# Altium integrated library Altium Database Library V2.IntLib: 825 symbols (part 31 of 40)

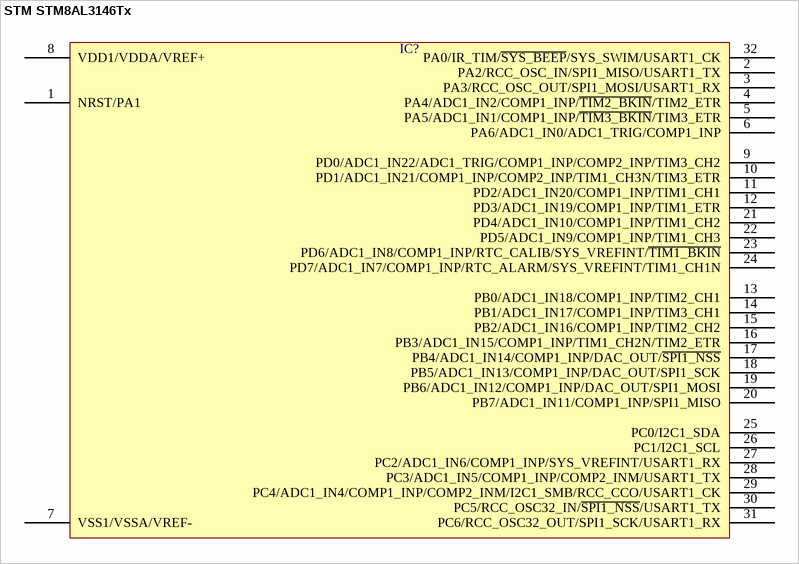
[diagram p610: symbol STM STM8AL3146Tx]

## STM STM8AL3146Tx
designator IC?  (value not drawn)
pins: 1 NRST/PA1, 2 PA2/RCC_OSC_IN/SPI1_MISO/USART1_TX, 3 PA3/RCC_OSC_OUT/SPI1_MOSI/USART1_RX, 4 PA4/ADC1_IN2/COMP1_INP/~{TIM2_BKIN}/TIM2_ETR, 5 PA5/ADC1_IN1/COMP1_INP/~{TIM3_BKIN}/TIM3_ETR, 6 PA6/ADC1_IN0/ADC1_TRIG/COMP1_INP, 7 VSS1/VSSA/VREF-, 8 VDD1/VDDA/VREF+, 9 PD0/ADC1_IN22/ADC1_TRIG/COMP1_INP/COMP2_INP/TIM3_CH2, 10 PD1/ADC1_IN21/COMP1_INP/COMP2_INP/TIM1_CH3N/TIM3_ETR, 11 PD2/ADC1_IN20/COMP1_INP/TIM1_CH1, 12 PD3/ADC1_IN19/COMP1_INP/TIM1_ETR, 13 PB0/ADC1_IN18/COMP1_INP/TIM2_CH1, 14 PB1/ADC1_IN17/COMP1_INP/TIM3_CH1, 15 PB2/ADC1_IN16/COMP1_INP/TIM2_CH2, 16 PB3/ADC1_IN15/COMP1_INP/TIM1_CH2N/TIM2_ETR, 17 PB4/ADC1_IN14/COMP1_INP/DAC_OUT/~{SPI1_NSS}, 18 PB5/ADC1_IN13/COMP1_INP/DAC_OUT/SPI1_SCK, 19 PB6/ADC1_IN12/COMP1_INP/DAC_OUT/SPI1_MOSI, 20 PB7/ADC1_IN11/COMP1_INP/SPI1_MISO, 21 PD4/ADC1_IN10/COMP1_INP/TIM1_CH2, 22 PD5/ADC1_IN9/COMP1_INP/TIM1_CH3, 23 PD6/ADC1_IN8/COMP1_INP/RTC_CALIB/SYS_VREFINT/~{TIM1_BKIN}, 24 PD7/ADC1_IN7/COMP1_INP/RTC_ALARM/SYS_VREFINT/TIM1_CH1N, 25 PC0/I2C1_SDA, 26 PC1/I2C1_SCL, 27 PC2/ADC1_IN6/COMP1_INP/SYS_VREFINT/USART1_RX, 28 PC3/ADC1_IN5/COMP1_INP/COMP2_INM/USART1_TX, 29 PC4/ADC1_IN4/COMP1_INP/COMP2_INM/I2C1_SMB/RCC_CCO/USART1_CK, 30 PC5/RCC_OSC32_IN/~{SPI1_NSS}/USART1_TX, 31 PC6/RCC_OSC32_OUT/SPI1_SCK/USART1_RX, 32 PA0/IR_TIM/~{SYS_BEEP}/SYS_SWIM/USART1_CK


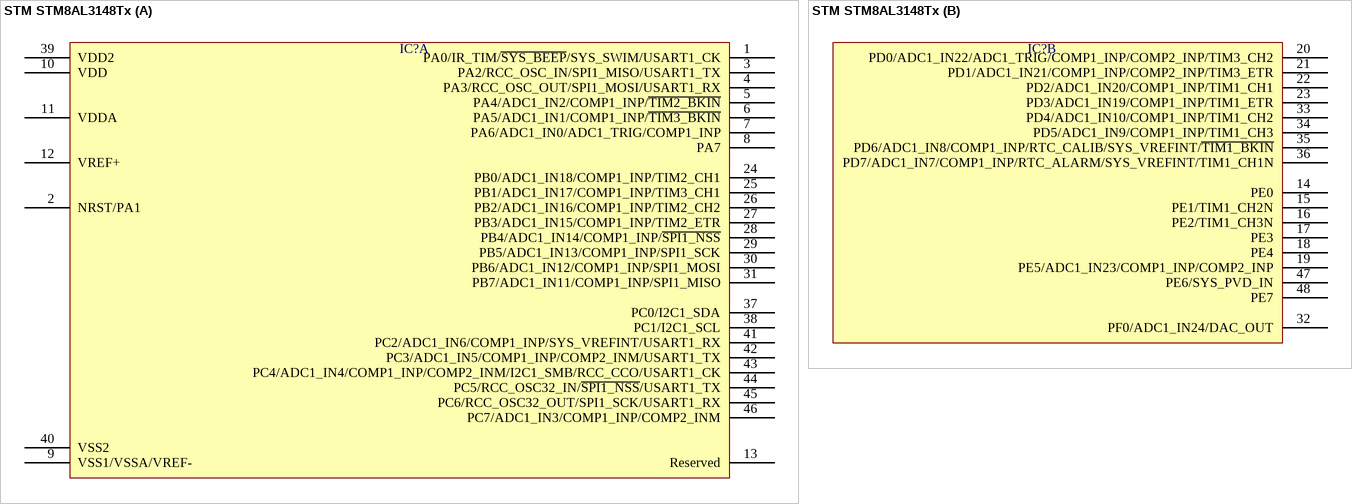
[diagram p611: symbol STM STM8AL3148Tx]

## STM STM8AL3148Tx
designator IC?  (value not drawn)
part A pins: 1 PA0/IR_TIM/~{SYS_BEEP}/SYS_SWIM/USART1_CK, 2 NRST/PA1, 3 PA2/RCC_OSC_IN/SPI1_MISO/USART1_TX, 4 PA3/RCC_OSC_OUT/SPI1_MOSI/USART1_RX, 5 PA4/ADC1_IN2/COMP1_INP/~{TIM2_BKIN}, 6 PA5/ADC1_IN1/COMP1_INP/~{TIM3_BKIN}, 7 PA6/ADC1_IN0/ADC1_TRIG/COMP1_INP, 8 PA7, 9 VSS1/VSSA/VREF-, 10 VDD, 11 VDDA, 12 VREF+, 13 Reserved, 24 PB0/ADC1_IN18/COMP1_INP/TIM2_CH1, 25 PB1/ADC1_IN17/COMP1_INP/TIM3_CH1, 26 PB2/ADC1_IN16/COMP1_INP/TIM2_CH2, 27 PB3/ADC1_IN15/COMP1_INP/TIM2_ETR, 28 PB4/ADC1_IN14/COMP1_INP/~{SPI1_NSS}, 29 PB5/ADC1_IN13/COMP1_INP/SPI1_SCK, 30 PB6/ADC1_IN12/COMP1_INP/SPI1_MOSI, 31 PB7/ADC1_IN11/COMP1_INP/SPI1_MISO, 37 PC0/I2C1_SDA, 38 PC1/I2C1_SCL, 39 VDD2, 40 VSS2, 41 PC2/ADC1_IN6/COMP1_INP/SYS_VREFINT/USART1_RX, 42 PC3/ADC1_IN5/COMP1_INP/COMP2_INM/USART1_TX, 43 PC4/ADC1_IN4/COMP1_INP/COMP2_INM/I2C1_SMB/RCC_CCO/USART1_CK, 44 PC5/RCC_OSC32_IN/~{SPI1_NSS}/USART1_TX, 45 PC6/RCC_OSC32_OUT/SPI1_SCK/USART1_RX, 46 PC7/ADC1_IN3/COMP1_INP/COMP2_INM
part B pins: 14 PE0, 15 PE1/TIM1_CH2N, 16 PE2/TIM1_CH3N, 17 PE3, 18 PE4, 19 PE5/ADC1_IN23/COMP1_INP/COMP2_INP, 20 PD0/ADC1_IN22/ADC1_TRIG/COMP1_INP/COMP2_INP/TIM3_CH2, 21 PD1/ADC1_IN21/COMP1_INP/COMP2_INP/TIM3_ETR, 22 PD2/ADC1_IN20/COMP1_INP/TIM1_CH1, 23 PD3/ADC1_IN19/COMP1_INP/TIM1_ETR, 32 PF0/ADC1_IN24/DAC_OUT, 33 PD4/ADC1_IN10/COMP1_INP/TIM1_CH2, 34 PD5/ADC1_IN9/COMP1_INP/TIM1_CH3, 35 PD6/ADC1_IN8/COMP1_INP/RTC_CALIB/SYS_VREFINT/~{TIM1_BKIN}, 36 PD7/ADC1_IN7/COMP1_INP/RTC_ALARM/SYS_VREFINT/TIM1_CH1N, 47 PE6/SYS_PVD_IN, 48 PE7


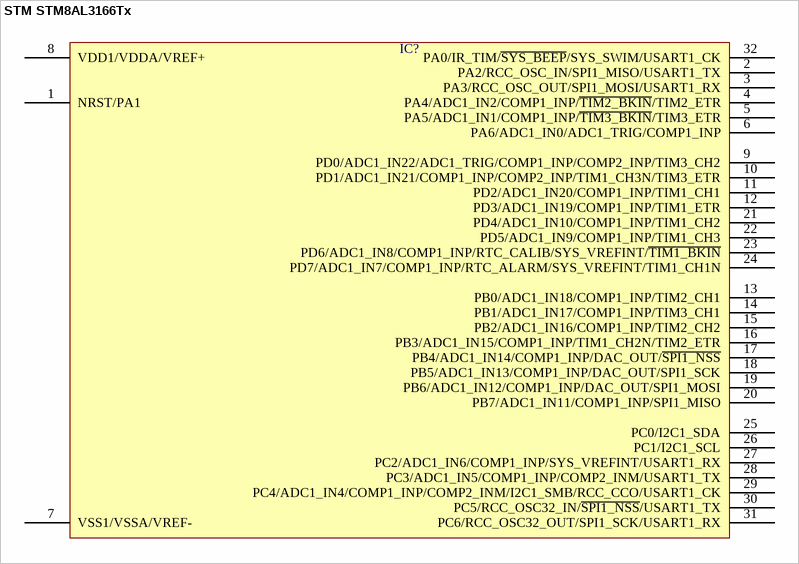
[diagram p612: symbol STM STM8AL3166Tx]

## STM STM8AL3166Tx
designator IC?  (value not drawn)
pins: 1 NRST/PA1, 2 PA2/RCC_OSC_IN/SPI1_MISO/USART1_TX, 3 PA3/RCC_OSC_OUT/SPI1_MOSI/USART1_RX, 4 PA4/ADC1_IN2/COMP1_INP/~{TIM2_BKIN}/TIM2_ETR, 5 PA5/ADC1_IN1/COMP1_INP/~{TIM3_BKIN}/TIM3_ETR, 6 PA6/ADC1_IN0/ADC1_TRIG/COMP1_INP, 7 VSS1/VSSA/VREF-, 8 VDD1/VDDA/VREF+, 9 PD0/ADC1_IN22/ADC1_TRIG/COMP1_INP/COMP2_INP/TIM3_CH2, 10 PD1/ADC1_IN21/COMP1_INP/COMP2_INP/TIM1_CH3N/TIM3_ETR, 11 PD2/ADC1_IN20/COMP1_INP/TIM1_CH1, 12 PD3/ADC1_IN19/COMP1_INP/TIM1_ETR, 13 PB0/ADC1_IN18/COMP1_INP/TIM2_CH1, 14 PB1/ADC1_IN17/COMP1_INP/TIM3_CH1, 15 PB2/ADC1_IN16/COMP1_INP/TIM2_CH2, 16 PB3/ADC1_IN15/COMP1_INP/TIM1_CH2N/TIM2_ETR, 17 PB4/ADC1_IN14/COMP1_INP/DAC_OUT/~{SPI1_NSS}, 18 PB5/ADC1_IN13/COMP1_INP/DAC_OUT/SPI1_SCK, 19 PB6/ADC1_IN12/COMP1_INP/DAC_OUT/SPI1_MOSI, 20 PB7/ADC1_IN11/COMP1_INP/SPI1_MISO, 21 PD4/ADC1_IN10/COMP1_INP/TIM1_CH2, 22 PD5/ADC1_IN9/COMP1_INP/TIM1_CH3, 23 PD6/ADC1_IN8/COMP1_INP/RTC_CALIB/SYS_VREFINT/~{TIM1_BKIN}, 24 PD7/ADC1_IN7/COMP1_INP/RTC_ALARM/SYS_VREFINT/TIM1_CH1N, 25 PC0/I2C1_SDA, 26 PC1/I2C1_SCL, 27 PC2/ADC1_IN6/COMP1_INP/SYS_VREFINT/USART1_RX, 28 PC3/ADC1_IN5/COMP1_INP/COMP2_INM/USART1_TX, 29 PC4/ADC1_IN4/COMP1_INP/COMP2_INM/I2C1_SMB/RCC_CCO/USART1_CK, 30 PC5/RCC_OSC32_IN/~{SPI1_NSS}/USART1_TX, 31 PC6/RCC_OSC32_OUT/SPI1_SCK/USART1_RX, 32 PA0/IR_TIM/~{SYS_BEEP}/SYS_SWIM/USART1_CK


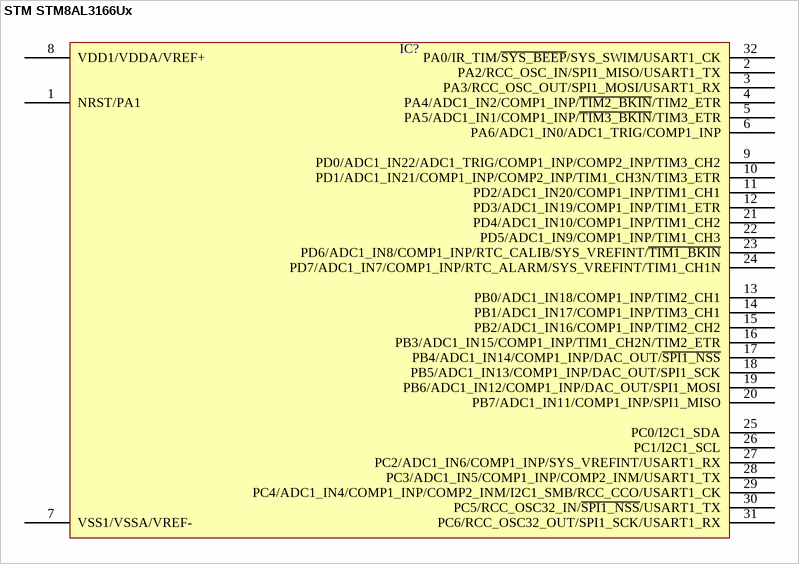
[diagram p613: symbol STM STM8AL3166Ux]

## STM STM8AL3166Ux
designator IC?  (value not drawn)
pins: 1 NRST/PA1, 2 PA2/RCC_OSC_IN/SPI1_MISO/USART1_TX, 3 PA3/RCC_OSC_OUT/SPI1_MOSI/USART1_RX, 4 PA4/ADC1_IN2/COMP1_INP/~{TIM2_BKIN}/TIM2_ETR, 5 PA5/ADC1_IN1/COMP1_INP/~{TIM3_BKIN}/TIM3_ETR, 6 PA6/ADC1_IN0/ADC1_TRIG/COMP1_INP, 7 VSS1/VSSA/VREF-, 8 VDD1/VDDA/VREF+, 9 PD0/ADC1_IN22/ADC1_TRIG/COMP1_INP/COMP2_INP/TIM3_CH2, 10 PD1/ADC1_IN21/COMP1_INP/COMP2_INP/TIM1_CH3N/TIM3_ETR, 11 PD2/ADC1_IN20/COMP1_INP/TIM1_CH1, 12 PD3/ADC1_IN19/COMP1_INP/TIM1_ETR, 13 PB0/ADC1_IN18/COMP1_INP/TIM2_CH1, 14 PB1/ADC1_IN17/COMP1_INP/TIM3_CH1, 15 PB2/ADC1_IN16/COMP1_INP/TIM2_CH2, 16 PB3/ADC1_IN15/COMP1_INP/TIM1_CH2N/TIM2_ETR, 17 PB4/ADC1_IN14/COMP1_INP/DAC_OUT/~{SPI1_NSS}, 18 PB5/ADC1_IN13/COMP1_INP/DAC_OUT/SPI1_SCK, 19 PB6/ADC1_IN12/COMP1_INP/DAC_OUT/SPI1_MOSI, 20 PB7/ADC1_IN11/COMP1_INP/SPI1_MISO, 21 PD4/ADC1_IN10/COMP1_INP/TIM1_CH2, 22 PD5/ADC1_IN9/COMP1_INP/TIM1_CH3, 23 PD6/ADC1_IN8/COMP1_INP/RTC_CALIB/SYS_VREFINT/~{TIM1_BKIN}, 24 PD7/ADC1_IN7/COMP1_INP/RTC_ALARM/SYS_VREFINT/TIM1_CH1N, 25 PC0/I2C1_SDA, 26 PC1/I2C1_SCL, 27 PC2/ADC1_IN6/COMP1_INP/SYS_VREFINT/USART1_RX, 28 PC3/ADC1_IN5/COMP1_INP/COMP2_INM/USART1_TX, 29 PC4/ADC1_IN4/COMP1_INP/COMP2_INM/I2C1_SMB/RCC_CCO/USART1_CK, 30 PC5/RCC_OSC32_IN/~{SPI1_NSS}/USART1_TX, 31 PC6/RCC_OSC32_OUT/SPI1_SCK/USART1_RX, 32 PA0/IR_TIM/~{SYS_BEEP}/SYS_SWIM/USART1_CK


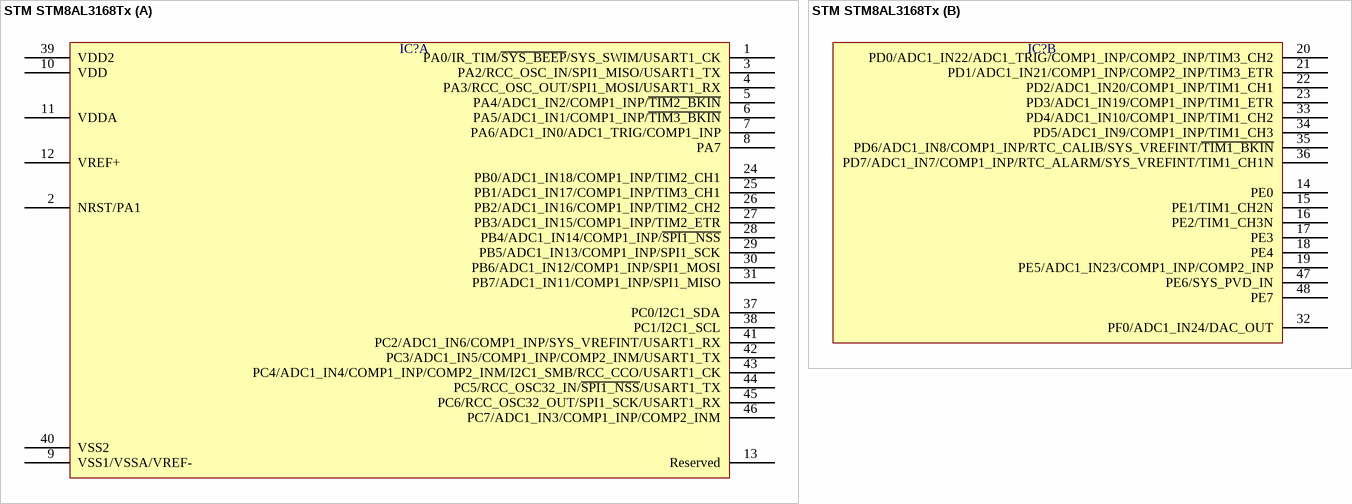
[diagram p614: symbol STM STM8AL3168Tx]

## STM STM8AL3168Tx
designator IC?  (value not drawn)
part A pins: 1 PA0/IR_TIM/~{SYS_BEEP}/SYS_SWIM/USART1_CK, 2 NRST/PA1, 3 PA2/RCC_OSC_IN/SPI1_MISO/USART1_TX, 4 PA3/RCC_OSC_OUT/SPI1_MOSI/USART1_RX, 5 PA4/ADC1_IN2/COMP1_INP/~{TIM2_BKIN}, 6 PA5/ADC1_IN1/COMP1_INP/~{TIM3_BKIN}, 7 PA6/ADC1_IN0/ADC1_TRIG/COMP1_INP, 8 PA7, 9 VSS1/VSSA/VREF-, 10 VDD, 11 VDDA, 12 VREF+, 13 Reserved, 24 PB0/ADC1_IN18/COMP1_INP/TIM2_CH1, 25 PB1/ADC1_IN17/COMP1_INP/TIM3_CH1, 26 PB2/ADC1_IN16/COMP1_INP/TIM2_CH2, 27 PB3/ADC1_IN15/COMP1_INP/TIM2_ETR, 28 PB4/ADC1_IN14/COMP1_INP/~{SPI1_NSS}, 29 PB5/ADC1_IN13/COMP1_INP/SPI1_SCK, 30 PB6/ADC1_IN12/COMP1_INP/SPI1_MOSI, 31 PB7/ADC1_IN11/COMP1_INP/SPI1_MISO, 37 PC0/I2C1_SDA, 38 PC1/I2C1_SCL, 39 VDD2, 40 VSS2, 41 PC2/ADC1_IN6/COMP1_INP/SYS_VREFINT/USART1_RX, 42 PC3/ADC1_IN5/COMP1_INP/COMP2_INM/USART1_TX, 43 PC4/ADC1_IN4/COMP1_INP/COMP2_INM/I2C1_SMB/RCC_CCO/USART1_CK, 44 PC5/RCC_OSC32_IN/~{SPI1_NSS}/USART1_TX, 45 PC6/RCC_OSC32_OUT/SPI1_SCK/USART1_RX, 46 PC7/ADC1_IN3/COMP1_INP/COMP2_INM
part B pins: 14 PE0, 15 PE1/TIM1_CH2N, 16 PE2/TIM1_CH3N, 17 PE3, 18 PE4, 19 PE5/ADC1_IN23/COMP1_INP/COMP2_INP, 20 PD0/ADC1_IN22/ADC1_TRIG/COMP1_INP/COMP2_INP/TIM3_CH2, 21 PD1/ADC1_IN21/COMP1_INP/COMP2_INP/TIM3_ETR, 22 PD2/ADC1_IN20/COMP1_INP/TIM1_CH1, 23 PD3/ADC1_IN19/COMP1_INP/TIM1_ETR, 32 PF0/ADC1_IN24/DAC_OUT, 33 PD4/ADC1_IN10/COMP1_INP/TIM1_CH2, 34 PD5/ADC1_IN9/COMP1_INP/TIM1_CH3, 35 PD6/ADC1_IN8/COMP1_INP/RTC_CALIB/SYS_VREFINT/~{TIM1_BKIN}, 36 PD7/ADC1_IN7/COMP1_INP/RTC_ALARM/SYS_VREFINT/TIM1_CH1N, 47 PE6/SYS_PVD_IN, 48 PE7


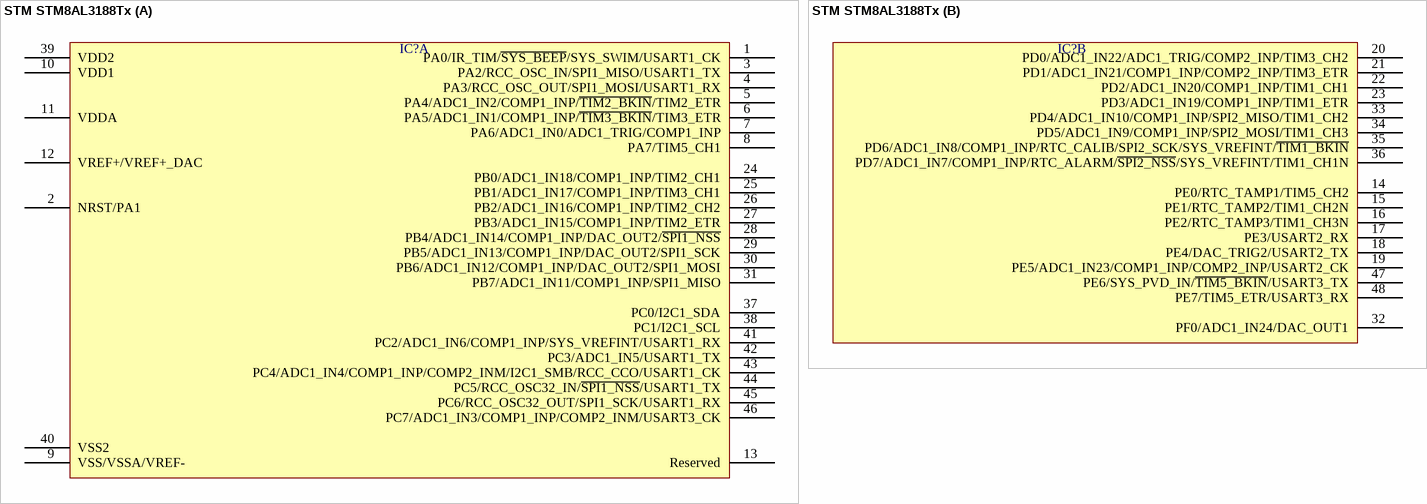
[diagram p615: symbol STM STM8AL3188Tx]

## STM STM8AL3188Tx
designator IC?  (value not drawn)
part A pins: 1 PA0/IR_TIM/~{SYS_BEEP}/SYS_SWIM/USART1_CK, 2 NRST/PA1, 3 PA2/RCC_OSC_IN/SPI1_MISO/USART1_TX, 4 PA3/RCC_OSC_OUT/SPI1_MOSI/USART1_RX, 5 PA4/ADC1_IN2/COMP1_INP/~{TIM2_BKIN}/TIM2_ETR, 6 PA5/ADC1_IN1/COMP1_INP/~{TIM3_BKIN}/TIM3_ETR, 7 PA6/ADC1_IN0/ADC1_TRIG/COMP1_INP, 8 PA7/TIM5_CH1, 9 VSS/VSSA/VREF-, 10 VDD1, 11 VDDA, 12 VREF+/VREF+_DAC, 13 Reserved, 24 PB0/ADC1_IN18/COMP1_INP/TIM2_CH1, 25 PB1/ADC1_IN17/COMP1_INP/TIM3_CH1, 26 PB2/ADC1_IN16/COMP1_INP/TIM2_CH2, 27 PB3/ADC1_IN15/COMP1_INP/TIM2_ETR, 28 PB4/ADC1_IN14/COMP1_INP/DAC_OUT2/~{SPI1_NSS}, 29 PB5/ADC1_IN13/COMP1_INP/DAC_OUT2/SPI1_SCK, 30 PB6/ADC1_IN12/COMP1_INP/DAC_OUT2/SPI1_MOSI, 31 PB7/ADC1_IN11/COMP1_INP/SPI1_MISO, 37 PC0/I2C1_SDA, 38 PC1/I2C1_SCL, 39 VDD2, 40 VSS2, 41 PC2/ADC1_IN6/COMP1_INP/SYS_VREFINT/USART1_RX, 42 PC3/ADC1_IN5/USART1_TX, 43 PC4/ADC1_IN4/COMP1_INP/COMP2_INM/I2C1_SMB/RCC_CCO/USART1_CK, 44 PC5/RCC_OSC32_IN/~{SPI1_NSS}/USART1_TX, 45 PC6/RCC_OSC32_OUT/SPI1_SCK/USART1_RX, 46 PC7/ADC1_IN3/COMP1_INP/COMP2_INM/USART3_CK
part B pins: 14 PE0/RTC_TAMP1/TIM5_CH2, 15 PE1/RTC_TAMP2/TIM1_CH2N, 16 PE2/RTC_TAMP3/TIM1_CH3N, 17 PE3/USART2_RX, 18 PE4/DAC_TRIG2/USART2_TX, 19 PE5/ADC1_IN23/COMP1_INP/COMP2_INP/USART2_CK, 20 PD0/ADC1_IN22/ADC1_TRIG/COMP2_INP/TIM3_CH2, 21 PD1/ADC1_IN21/COMP1_INP/COMP2_INP/TIM3_ETR, 22 PD2/ADC1_IN20/COMP1_INP/TIM1_CH1, 23 PD3/ADC1_IN19/COMP1_INP/TIM1_ETR, 32 PF0/ADC1_IN24/DAC_OUT1, 33 PD4/ADC1_IN10/COMP1_INP/SPI2_MISO/TIM1_CH2, 34 PD5/ADC1_IN9/COMP1_INP/SPI2_MOSI/TIM1_CH3, 35 PD6/ADC1_IN8/COMP1_INP/RTC_CALIB/SPI2_SCK/SYS_VREFINT/~{TIM1_BKIN}, 36 PD7/ADC1_IN7/COMP1_INP/RTC_ALARM/~{SPI2_NSS}/SYS_VREFINT/TIM1_CH1N, 47 PE6/SYS_PVD_IN/~{TIM5_BKIN}/USART3_TX, 48 PE7/TIM5_ETR/USART3_RX


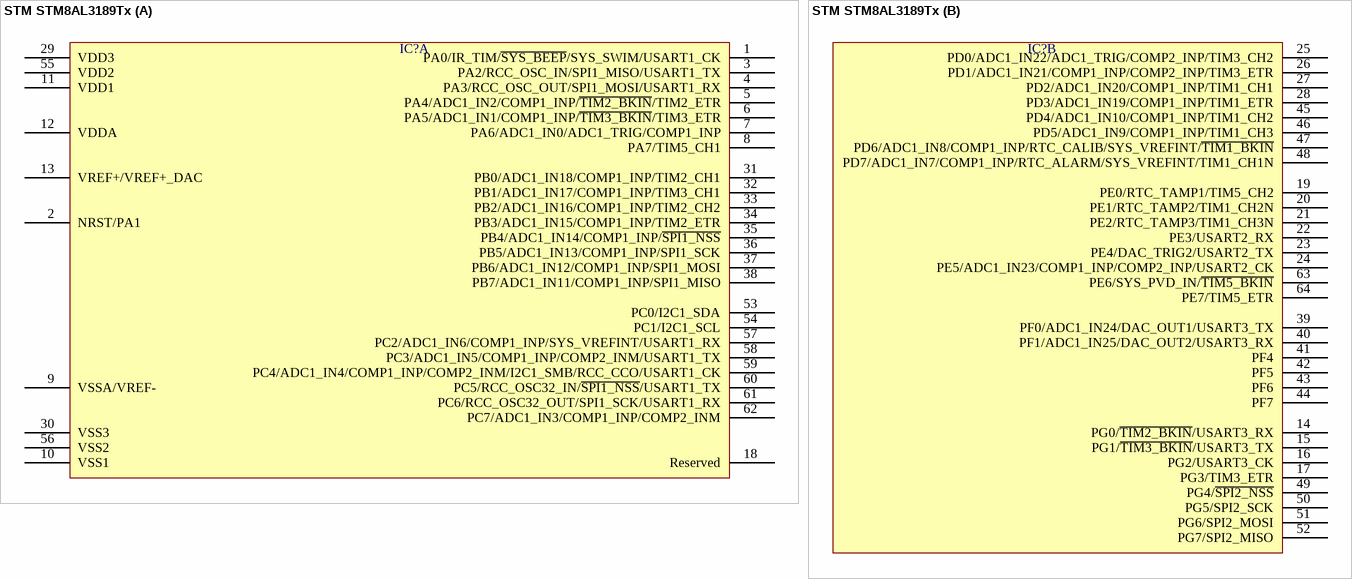
[diagram p616: symbol STM STM8AL3189Tx]

## STM STM8AL3189Tx
designator IC?  (value not drawn)
part A pins: 1 PA0/IR_TIM/~{SYS_BEEP}/SYS_SWIM/USART1_CK, 2 NRST/PA1, 3 PA2/RCC_OSC_IN/SPI1_MISO/USART1_TX, 4 PA3/RCC_OSC_OUT/SPI1_MOSI/USART1_RX, 5 PA4/ADC1_IN2/COMP1_INP/~{TIM2_BKIN}/TIM2_ETR, 6 PA5/ADC1_IN1/COMP1_INP/~{TIM3_BKIN}/TIM3_ETR, 7 PA6/ADC1_IN0/ADC1_TRIG/COMP1_INP, 8 PA7/TIM5_CH1, 9 VSSA/VREF-, 10 VSS1, 11 VDD1, 12 VDDA, 13 VREF+/VREF+_DAC, 18 Reserved, 29 VDD3, 30 VSS3, 31 PB0/ADC1_IN18/COMP1_INP/TIM2_CH1, 32 PB1/ADC1_IN17/COMP1_INP/TIM3_CH1, 33 PB2/ADC1_IN16/COMP1_INP/TIM2_CH2, 34 PB3/ADC1_IN15/COMP1_INP/TIM2_ETR, 35 PB4/ADC1_IN14/COMP1_INP/~{SPI1_NSS}, 36 PB5/ADC1_IN13/COMP1_INP/SPI1_SCK, 37 PB6/ADC1_IN12/COMP1_INP/SPI1_MOSI, 38 PB7/ADC1_IN11/COMP1_INP/SPI1_MISO, 53 PC0/I2C1_SDA, 54 PC1/I2C1_SCL, 55 VDD2, 56 VSS2, 57 PC2/ADC1_IN6/COMP1_INP/SYS_VREFINT/USART1_RX, 58 PC3/ADC1_IN5/COMP1_INP/COMP2_INM/USART1_TX, 59 PC4/ADC1_IN4/COMP1_INP/COMP2_INM/I2C1_SMB/RCC_CCO/USART1_CK, 60 PC5/RCC_OSC32_IN/~{SPI1_NSS}/USART1_TX, 61 PC6/RCC_OSC32_OUT/SPI1_SCK/USART1_RX, 62 PC7/ADC1_IN3/COMP1_INP/COMP2_INM
part B pins: 14 PG0/~{TIM2_BKIN}/USART3_RX, 15 PG1/~{TIM3_BKIN}/USART3_TX, 16 PG2/USART3_CK, 17 PG3/TIM3_ETR, 19 PE0/RTC_TAMP1/TIM5_CH2, 20 PE1/RTC_TAMP2/TIM1_CH2N, 21 PE2/RTC_TAMP3/TIM1_CH3N, 22 PE3/USART2_RX, 23 PE4/DAC_TRIG2/USART2_TX, 24 PE5/ADC1_IN23/COMP1_INP/COMP2_INP/USART2_CK, 25 PD0/ADC1_IN22/ADC1_TRIG/COMP2_INP/TIM3_CH2, 26 PD1/ADC1_IN21/COMP1_INP/COMP2_INP/TIM3_ETR, 27 PD2/ADC1_IN20/COMP1_INP/TIM1_CH1, 28 PD3/ADC1_IN19/COMP1_INP/TIM1_ETR, 39 PF0/ADC1_IN24/DAC_OUT1/USART3_TX, 40 PF1/ADC1_IN25/DAC_OUT2/USART3_RX, 41 PF4, 42 PF5, 43 PF6, 44 PF7, 45 PD4/ADC1_IN10/COMP1_INP/TIM1_CH2, 46 PD5/ADC1_IN9/COMP1_INP/TIM1_CH3, 47 PD6/ADC1_IN8/COMP1_INP/RTC_CALIB/SYS_VREFINT/~{TIM1_BKIN}, 48 PD7/ADC1_IN7/COMP1_INP/RTC_ALARM/SYS_VREFINT/TIM1_CH1N, 49 PG4/~{SPI2_NSS}, 50 PG5/SPI2_SCK, 51 PG6/SPI2_MOSI, 52 PG7/SPI2_MISO, 63 PE6/SYS_PVD_IN/~{TIM5_BKIN}, 64 PE7/TIM5_ETR


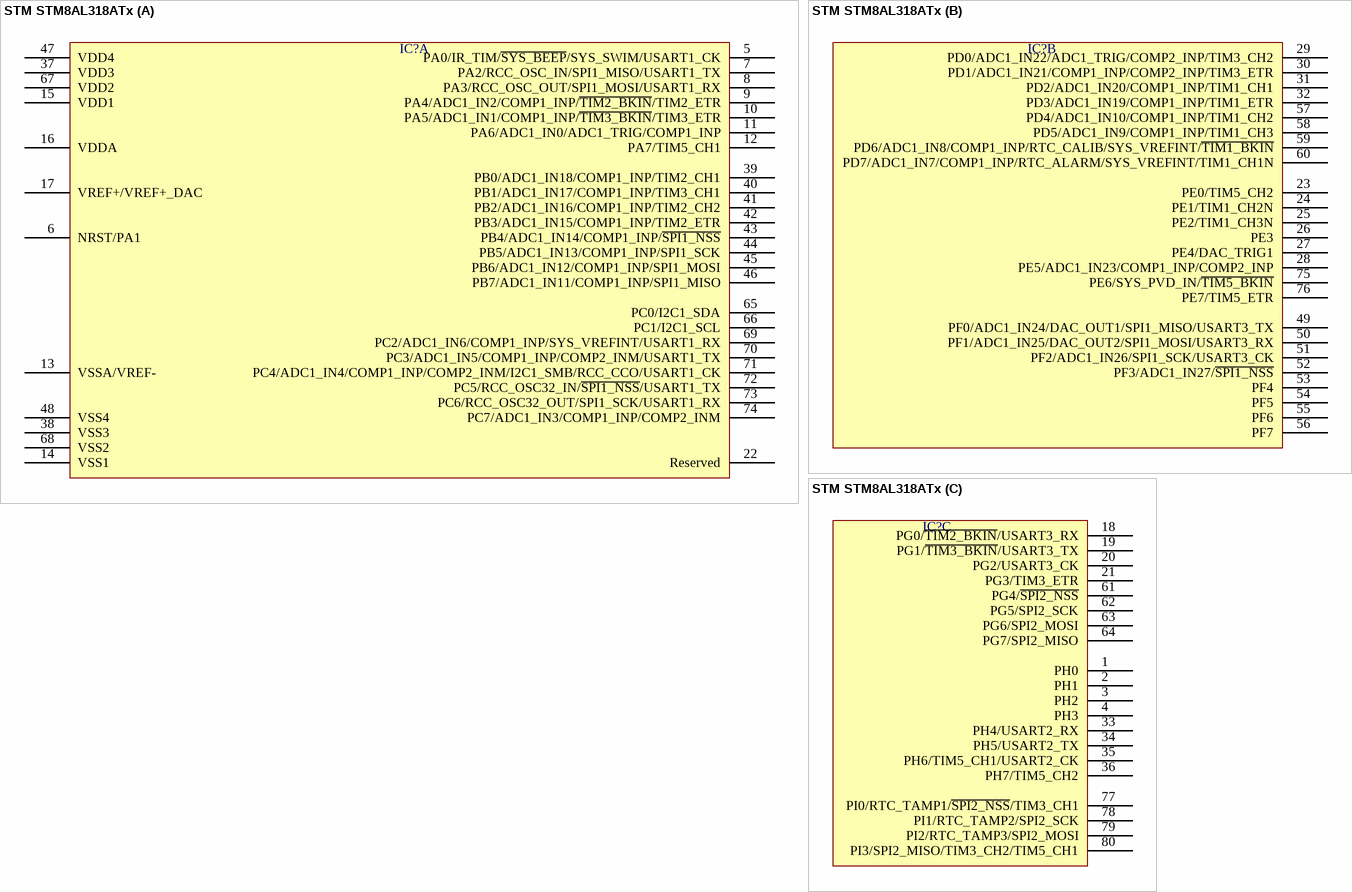
[diagram p617: symbol STM STM8AL318ATx]

## STM STM8AL318ATx
designator IC?  (value not drawn)
part A pins: 5 PA0/IR_TIM/~{SYS_BEEP}/SYS_SWIM/USART1_CK, 6 NRST/PA1, 7 PA2/RCC_OSC_IN/SPI1_MISO/USART1_TX, 8 PA3/RCC_OSC_OUT/SPI1_MOSI/USART1_RX, 9 PA4/ADC1_IN2/COMP1_INP/~{TIM2_BKIN}/TIM2_ETR, 10 PA5/ADC1_IN1/COMP1_INP/~{TIM3_BKIN}/TIM3_ETR, 11 PA6/ADC1_IN0/ADC1_TRIG/COMP1_INP, 12 PA7/TIM5_CH1, 13 VSSA/VREF-, 14 VSS1, 15 VDD1, 16 VDDA, 17 VREF+/VREF+_DAC, 22 Reserved, 37 VDD3, 38 VSS3, 39 PB0/ADC1_IN18/COMP1_INP/TIM2_CH1, 40 PB1/ADC1_IN17/COMP1_INP/TIM3_CH1, 41 PB2/ADC1_IN16/COMP1_INP/TIM2_CH2, 42 PB3/ADC1_IN15/COMP1_INP/TIM2_ETR, 43 PB4/ADC1_IN14/COMP1_INP/~{SPI1_NSS}, 44 PB5/ADC1_IN13/COMP1_INP/SPI1_SCK, 45 PB6/ADC1_IN12/COMP1_INP/SPI1_MOSI, 46 PB7/ADC1_IN11/COMP1_INP/SPI1_MISO, 47 VDD4, 48 VSS4, 65 PC0/I2C1_SDA, 66 PC1/I2C1_SCL, 67 VDD2, 68 VSS2, 69 PC2/ADC1_IN6/COMP1_INP/SYS_VREFINT/USART1_RX, 70 PC3/ADC1_IN5/COMP1_INP/COMP2_INM/USART1_TX, 71 PC4/ADC1_IN4/COMP1_INP/COMP2_INM/I2C1_SMB/RCC_CCO/USART1_CK, 72 PC5/RCC_OSC32_IN/~{SPI1_NSS}/USART1_TX, 73 PC6/RCC_OSC32_OUT/SPI1_SCK/USART1_RX, 74 PC7/ADC1_IN3/COMP1_INP/COMP2_INM
part B pins: 23 PE0/TIM5_CH2, 24 PE1/TIM1_CH2N, 25 PE2/TIM1_CH3N, 26 PE3, 27 PE4/DAC_TRIG1, 28 PE5/ADC1_IN23/COMP1_INP/COMP2_INP, 29 PD0/ADC1_IN22/ADC1_TRIG/COMP2_INP/TIM3_CH2, 30 PD1/ADC1_IN21/COMP1_INP/COMP2_INP/TIM3_ETR, 31 PD2/ADC1_IN20/COMP1_INP/TIM1_CH1, 32 PD3/ADC1_IN19/COMP1_INP/TIM1_ETR, 49 PF0/ADC1_IN24/DAC_OUT1/SPI1_MISO/USART3_TX, 50 PF1/ADC1_IN25/DAC_OUT2/SPI1_MOSI/USART3_RX, 51 PF2/ADC1_IN26/SPI1_SCK/USART3_CK, 52 PF3/ADC1_IN27/~{SPI1_NSS}, 53 PF4, 54 PF5, 55 PF6, 56 PF7, 57 PD4/ADC1_IN10/COMP1_INP/TIM1_CH2, 58 PD5/ADC1_IN9/COMP1_INP/TIM1_CH3, 59 PD6/ADC1_IN8/COMP1_INP/RTC_CALIB/SYS_VREFINT/~{TIM1_BKIN}, 60 PD7/ADC1_IN7/COMP1_INP/RTC_ALARM/SYS_VREFINT/TIM1_CH1N, 75 PE6/SYS_PVD_IN/~{TIM5_BKIN}, 76 PE7/TIM5_ETR
part C pins: 1 PH0, 2 PH1, 3 PH2, 4 PH3, 18 PG0/~{TIM2_BKIN}/USART3_RX, 19 PG1/~{TIM3_BKIN}/USART3_TX, 20 PG2/USART3_CK, 21 PG3/TIM3_ETR, 33 PH4/USART2_RX, 34 PH5/USART2_TX, 35 PH6/TIM5_CH1/USART2_CK, 36 PH7/TIM5_CH2, 61 PG4/~{SPI2_NSS}, 62 PG5/SPI2_SCK, 63 PG6/SPI2_MOSI, 64 PG7/SPI2_MISO, 77 PI0/RTC_TAMP1/~{SPI2_NSS}/TIM3_CH1, 78 PI1/RTC_TAMP2/SPI2_SCK, 79 PI2/RTC_TAMP3/SPI2_MOSI, 80 PI3/SPI2_MISO/TIM3_CH2/TIM5_CH1


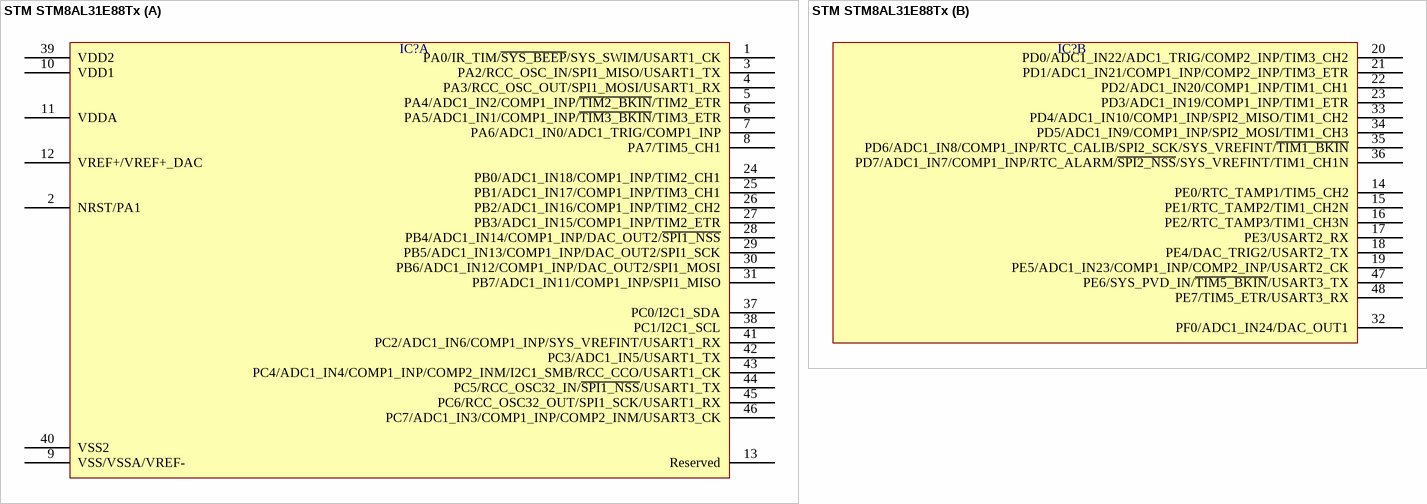
[diagram p618: symbol STM STM8AL31E88Tx]

## STM STM8AL31E88Tx
designator IC?  (value not drawn)
part A pins: 1 PA0/IR_TIM/~{SYS_BEEP}/SYS_SWIM/USART1_CK, 2 NRST/PA1, 3 PA2/RCC_OSC_IN/SPI1_MISO/USART1_TX, 4 PA3/RCC_OSC_OUT/SPI1_MOSI/USART1_RX, 5 PA4/ADC1_IN2/COMP1_INP/~{TIM2_BKIN}/TIM2_ETR, 6 PA5/ADC1_IN1/COMP1_INP/~{TIM3_BKIN}/TIM3_ETR, 7 PA6/ADC1_IN0/ADC1_TRIG/COMP1_INP, 8 PA7/TIM5_CH1, 9 VSS/VSSA/VREF-, 10 VDD1, 11 VDDA, 12 VREF+/VREF+_DAC, 13 Reserved, 24 PB0/ADC1_IN18/COMP1_INP/TIM2_CH1, 25 PB1/ADC1_IN17/COMP1_INP/TIM3_CH1, 26 PB2/ADC1_IN16/COMP1_INP/TIM2_CH2, 27 PB3/ADC1_IN15/COMP1_INP/TIM2_ETR, 28 PB4/ADC1_IN14/COMP1_INP/DAC_OUT2/~{SPI1_NSS}, 29 PB5/ADC1_IN13/COMP1_INP/DAC_OUT2/SPI1_SCK, 30 PB6/ADC1_IN12/COMP1_INP/DAC_OUT2/SPI1_MOSI, 31 PB7/ADC1_IN11/COMP1_INP/SPI1_MISO, 37 PC0/I2C1_SDA, 38 PC1/I2C1_SCL, 39 VDD2, 40 VSS2, 41 PC2/ADC1_IN6/COMP1_INP/SYS_VREFINT/USART1_RX, 42 PC3/ADC1_IN5/USART1_TX, 43 PC4/ADC1_IN4/COMP1_INP/COMP2_INM/I2C1_SMB/RCC_CCO/USART1_CK, 44 PC5/RCC_OSC32_IN/~{SPI1_NSS}/USART1_TX, 45 PC6/RCC_OSC32_OUT/SPI1_SCK/USART1_RX, 46 PC7/ADC1_IN3/COMP1_INP/COMP2_INM/USART3_CK
part B pins: 14 PE0/RTC_TAMP1/TIM5_CH2, 15 PE1/RTC_TAMP2/TIM1_CH2N, 16 PE2/RTC_TAMP3/TIM1_CH3N, 17 PE3/USART2_RX, 18 PE4/DAC_TRIG2/USART2_TX, 19 PE5/ADC1_IN23/COMP1_INP/COMP2_INP/USART2_CK, 20 PD0/ADC1_IN22/ADC1_TRIG/COMP2_INP/TIM3_CH2, 21 PD1/ADC1_IN21/COMP1_INP/COMP2_INP/TIM3_ETR, 22 PD2/ADC1_IN20/COMP1_INP/TIM1_CH1, 23 PD3/ADC1_IN19/COMP1_INP/TIM1_ETR, 32 PF0/ADC1_IN24/DAC_OUT1, 33 PD4/ADC1_IN10/COMP1_INP/SPI2_MISO/TIM1_CH2, 34 PD5/ADC1_IN9/COMP1_INP/SPI2_MOSI/TIM1_CH3, 35 PD6/ADC1_IN8/COMP1_INP/RTC_CALIB/SPI2_SCK/SYS_VREFINT/~{TIM1_BKIN}, 36 PD7/ADC1_IN7/COMP1_INP/RTC_ALARM/~{SPI2_NSS}/SYS_VREFINT/TIM1_CH1N, 47 PE6/SYS_PVD_IN/~{TIM5_BKIN}/USART3_TX, 48 PE7/TIM5_ETR/USART3_RX


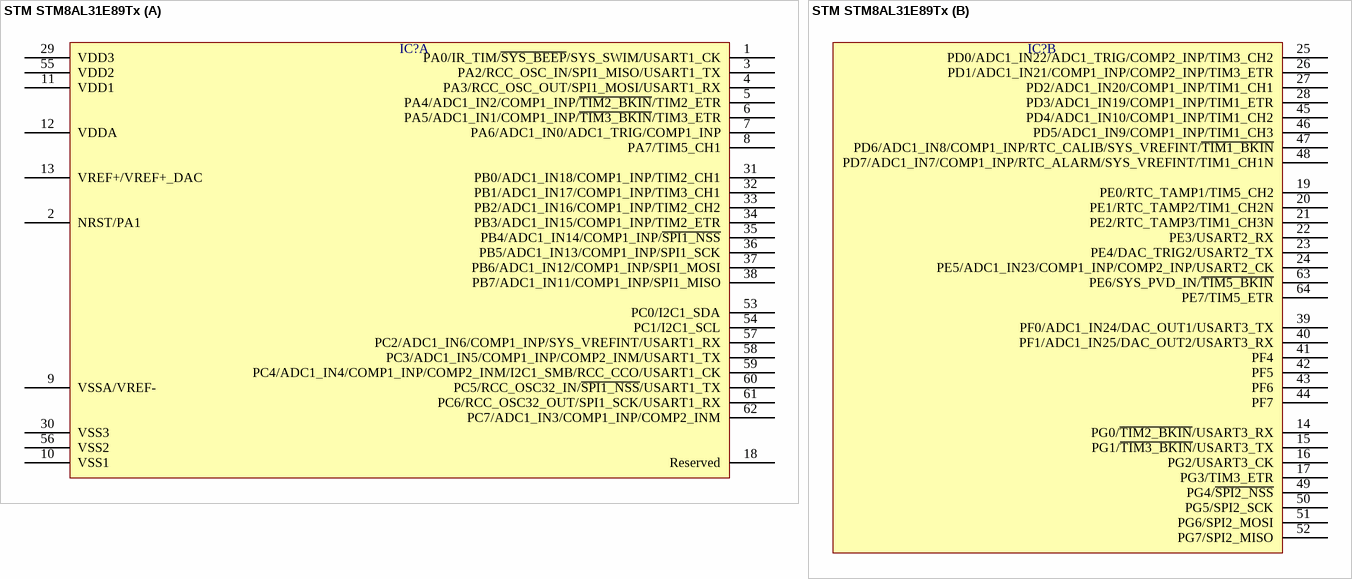
[diagram p619: symbol STM STM8AL31E89Tx]

## STM STM8AL31E89Tx
designator IC?  (value not drawn)
part A pins: 1 PA0/IR_TIM/~{SYS_BEEP}/SYS_SWIM/USART1_CK, 2 NRST/PA1, 3 PA2/RCC_OSC_IN/SPI1_MISO/USART1_TX, 4 PA3/RCC_OSC_OUT/SPI1_MOSI/USART1_RX, 5 PA4/ADC1_IN2/COMP1_INP/~{TIM2_BKIN}/TIM2_ETR, 6 PA5/ADC1_IN1/COMP1_INP/~{TIM3_BKIN}/TIM3_ETR, 7 PA6/ADC1_IN0/ADC1_TRIG/COMP1_INP, 8 PA7/TIM5_CH1, 9 VSSA/VREF-, 10 VSS1, 11 VDD1, 12 VDDA, 13 VREF+/VREF+_DAC, 18 Reserved, 29 VDD3, 30 VSS3, 31 PB0/ADC1_IN18/COMP1_INP/TIM2_CH1, 32 PB1/ADC1_IN17/COMP1_INP/TIM3_CH1, 33 PB2/ADC1_IN16/COMP1_INP/TIM2_CH2, 34 PB3/ADC1_IN15/COMP1_INP/TIM2_ETR, 35 PB4/ADC1_IN14/COMP1_INP/~{SPI1_NSS}, 36 PB5/ADC1_IN13/COMP1_INP/SPI1_SCK, 37 PB6/ADC1_IN12/COMP1_INP/SPI1_MOSI, 38 PB7/ADC1_IN11/COMP1_INP/SPI1_MISO, 53 PC0/I2C1_SDA, 54 PC1/I2C1_SCL, 55 VDD2, 56 VSS2, 57 PC2/ADC1_IN6/COMP1_INP/SYS_VREFINT/USART1_RX, 58 PC3/ADC1_IN5/COMP1_INP/COMP2_INM/USART1_TX, 59 PC4/ADC1_IN4/COMP1_INP/COMP2_INM/I2C1_SMB/RCC_CCO/USART1_CK, 60 PC5/RCC_OSC32_IN/~{SPI1_NSS}/USART1_TX, 61 PC6/RCC_OSC32_OUT/SPI1_SCK/USART1_RX, 62 PC7/ADC1_IN3/COMP1_INP/COMP2_INM
part B pins: 14 PG0/~{TIM2_BKIN}/USART3_RX, 15 PG1/~{TIM3_BKIN}/USART3_TX, 16 PG2/USART3_CK, 17 PG3/TIM3_ETR, 19 PE0/RTC_TAMP1/TIM5_CH2, 20 PE1/RTC_TAMP2/TIM1_CH2N, 21 PE2/RTC_TAMP3/TIM1_CH3N, 22 PE3/USART2_RX, 23 PE4/DAC_TRIG2/USART2_TX, 24 PE5/ADC1_IN23/COMP1_INP/COMP2_INP/USART2_CK, 25 PD0/ADC1_IN22/ADC1_TRIG/COMP2_INP/TIM3_CH2, 26 PD1/ADC1_IN21/COMP1_INP/COMP2_INP/TIM3_ETR, 27 PD2/ADC1_IN20/COMP1_INP/TIM1_CH1, 28 PD3/ADC1_IN19/COMP1_INP/TIM1_ETR, 39 PF0/ADC1_IN24/DAC_OUT1/USART3_TX, 40 PF1/ADC1_IN25/DAC_OUT2/USART3_RX, 41 PF4, 42 PF5, 43 PF6, 44 PF7, 45 PD4/ADC1_IN10/COMP1_INP/TIM1_CH2, 46 PD5/ADC1_IN9/COMP1_INP/TIM1_CH3, 47 PD6/ADC1_IN8/COMP1_INP/RTC_CALIB/SYS_VREFINT/~{TIM1_BKIN}, 48 PD7/ADC1_IN7/COMP1_INP/RTC_ALARM/SYS_VREFINT/TIM1_CH1N, 49 PG4/~{SPI2_NSS}, 50 PG5/SPI2_SCK, 51 PG6/SPI2_MOSI, 52 PG7/SPI2_MISO, 63 PE6/SYS_PVD_IN/~{TIM5_BKIN}, 64 PE7/TIM5_ETR


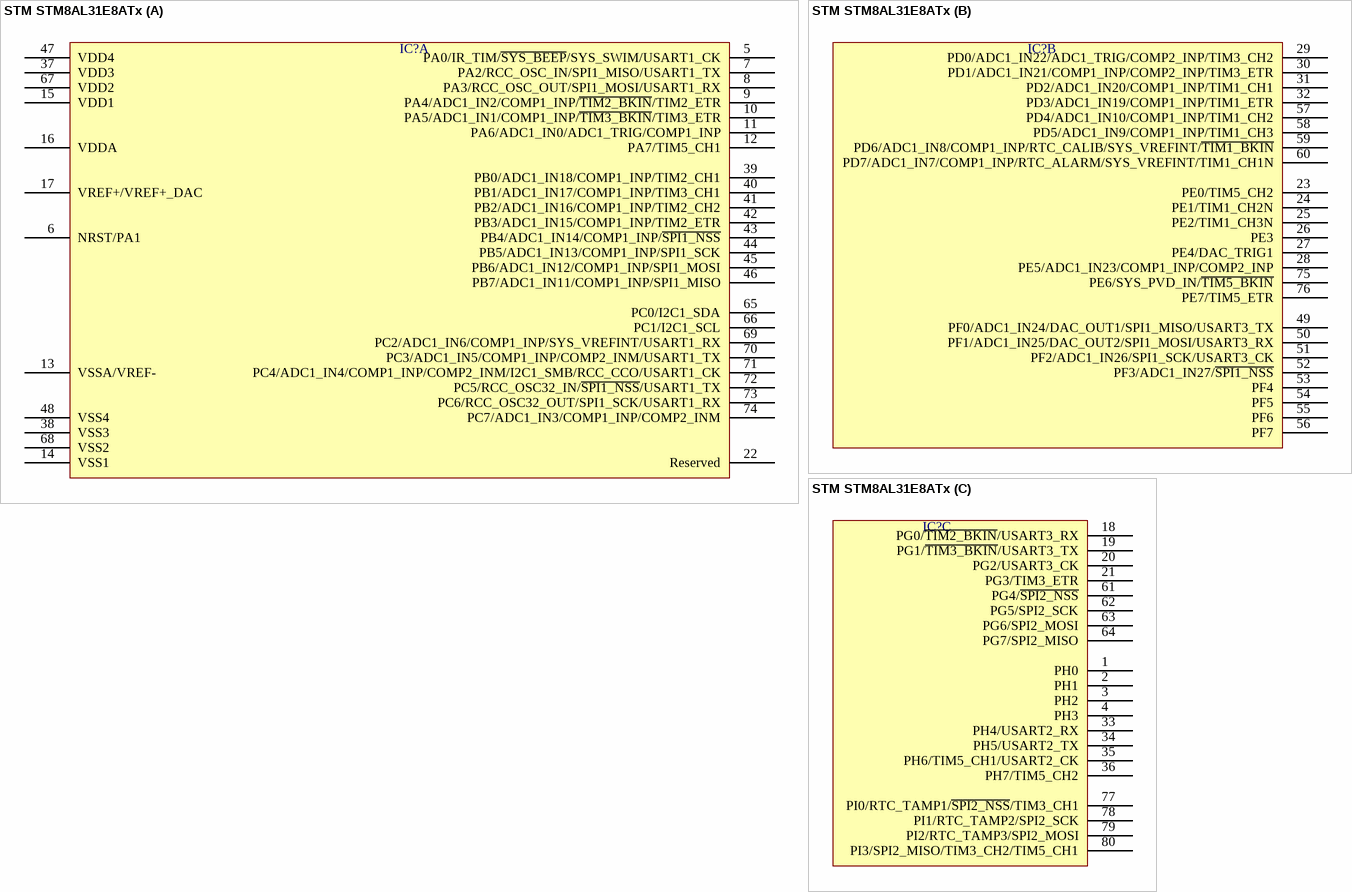
[diagram p620: symbol STM STM8AL31E8ATx]

## STM STM8AL31E8ATx
designator IC?  (value not drawn)
part A pins: 5 PA0/IR_TIM/~{SYS_BEEP}/SYS_SWIM/USART1_CK, 6 NRST/PA1, 7 PA2/RCC_OSC_IN/SPI1_MISO/USART1_TX, 8 PA3/RCC_OSC_OUT/SPI1_MOSI/USART1_RX, 9 PA4/ADC1_IN2/COMP1_INP/~{TIM2_BKIN}/TIM2_ETR, 10 PA5/ADC1_IN1/COMP1_INP/~{TIM3_BKIN}/TIM3_ETR, 11 PA6/ADC1_IN0/ADC1_TRIG/COMP1_INP, 12 PA7/TIM5_CH1, 13 VSSA/VREF-, 14 VSS1, 15 VDD1, 16 VDDA, 17 VREF+/VREF+_DAC, 22 Reserved, 37 VDD3, 38 VSS3, 39 PB0/ADC1_IN18/COMP1_INP/TIM2_CH1, 40 PB1/ADC1_IN17/COMP1_INP/TIM3_CH1, 41 PB2/ADC1_IN16/COMP1_INP/TIM2_CH2, 42 PB3/ADC1_IN15/COMP1_INP/TIM2_ETR, 43 PB4/ADC1_IN14/COMP1_INP/~{SPI1_NSS}, 44 PB5/ADC1_IN13/COMP1_INP/SPI1_SCK, 45 PB6/ADC1_IN12/COMP1_INP/SPI1_MOSI, 46 PB7/ADC1_IN11/COMP1_INP/SPI1_MISO, 47 VDD4, 48 VSS4, 65 PC0/I2C1_SDA, 66 PC1/I2C1_SCL, 67 VDD2, 68 VSS2, 69 PC2/ADC1_IN6/COMP1_INP/SYS_VREFINT/USART1_RX, 70 PC3/ADC1_IN5/COMP1_INP/COMP2_INM/USART1_TX, 71 PC4/ADC1_IN4/COMP1_INP/COMP2_INM/I2C1_SMB/RCC_CCO/USART1_CK, 72 PC5/RCC_OSC32_IN/~{SPI1_NSS}/USART1_TX, 73 PC6/RCC_OSC32_OUT/SPI1_SCK/USART1_RX, 74 PC7/ADC1_IN3/COMP1_INP/COMP2_INM
part B pins: 23 PE0/TIM5_CH2, 24 PE1/TIM1_CH2N, 25 PE2/TIM1_CH3N, 26 PE3, 27 PE4/DAC_TRIG1, 28 PE5/ADC1_IN23/COMP1_INP/COMP2_INP, 29 PD0/ADC1_IN22/ADC1_TRIG/COMP2_INP/TIM3_CH2, 30 PD1/ADC1_IN21/COMP1_INP/COMP2_INP/TIM3_ETR, 31 PD2/ADC1_IN20/COMP1_INP/TIM1_CH1, 32 PD3/ADC1_IN19/COMP1_INP/TIM1_ETR, 49 PF0/ADC1_IN24/DAC_OUT1/SPI1_MISO/USART3_TX, 50 PF1/ADC1_IN25/DAC_OUT2/SPI1_MOSI/USART3_RX, 51 PF2/ADC1_IN26/SPI1_SCK/USART3_CK, 52 PF3/ADC1_IN27/~{SPI1_NSS}, 53 PF4, 54 PF5, 55 PF6, 56 PF7, 57 PD4/ADC1_IN10/COMP1_INP/TIM1_CH2, 58 PD5/ADC1_IN9/COMP1_INP/TIM1_CH3, 59 PD6/ADC1_IN8/COMP1_INP/RTC_CALIB/SYS_VREFINT/~{TIM1_BKIN}, 60 PD7/ADC1_IN7/COMP1_INP/RTC_ALARM/SYS_VREFINT/TIM1_CH1N, 75 PE6/SYS_PVD_IN/~{TIM5_BKIN}, 76 PE7/TIM5_ETR
part C pins: 1 PH0, 2 PH1, 3 PH2, 4 PH3, 18 PG0/~{TIM2_BKIN}/USART3_RX, 19 PG1/~{TIM3_BKIN}/USART3_TX, 20 PG2/USART3_CK, 21 PG3/TIM3_ETR, 33 PH4/USART2_RX, 34 PH5/USART2_TX, 35 PH6/TIM5_CH1/USART2_CK, 36 PH7/TIM5_CH2, 61 PG4/~{SPI2_NSS}, 62 PG5/SPI2_SCK, 63 PG6/SPI2_MOSI, 64 PG7/SPI2_MISO, 77 PI0/RTC_TAMP1/~{SPI2_NSS}/TIM3_CH1, 78 PI1/RTC_TAMP2/SPI2_SCK, 79 PI2/RTC_TAMP3/SPI2_MOSI, 80 PI3/SPI2_MISO/TIM3_CH2/TIM5_CH1


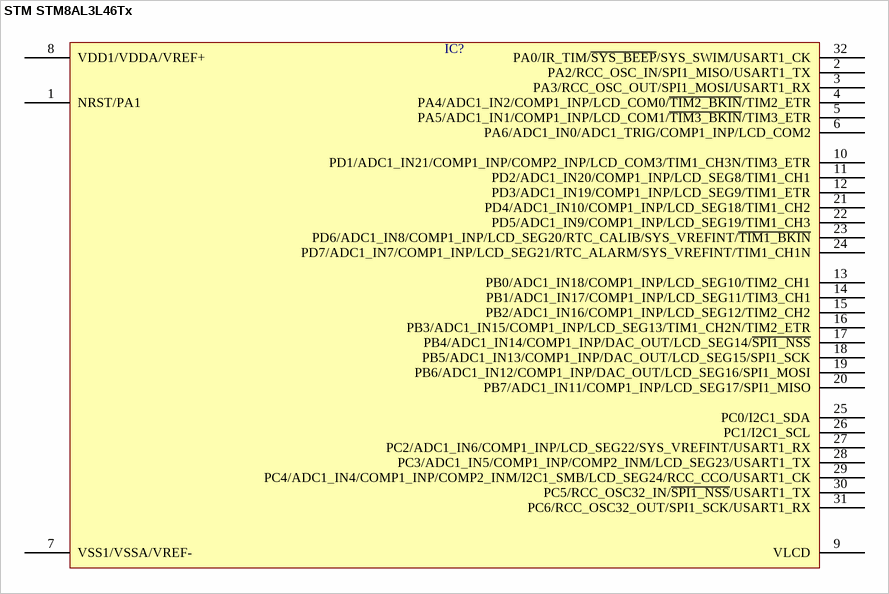
[diagram p621: symbol STM STM8AL3L46Tx]

## STM STM8AL3L46Tx
designator IC?  (value not drawn)
pins: 1 NRST/PA1, 2 PA2/RCC_OSC_IN/SPI1_MISO/USART1_TX, 3 PA3/RCC_OSC_OUT/SPI1_MOSI/USART1_RX, 4 PA4/ADC1_IN2/COMP1_INP/LCD_COM0/~{TIM2_BKIN}/TIM2_ETR, 5 PA5/ADC1_IN1/COMP1_INP/LCD_COM1/~{TIM3_BKIN}/TIM3_ETR, 6 PA6/ADC1_IN0/ADC1_TRIG/COMP1_INP/LCD_COM2, 7 VSS1/VSSA/VREF-, 8 VDD1/VDDA/VREF+, 9 VLCD, 10 PD1/ADC1_IN21/COMP1_INP/COMP2_INP/LCD_COM3/TIM1_CH3N/TIM3_ETR, 11 PD2/ADC1_IN20/COMP1_INP/LCD_SEG8/TIM1_CH1, 12 PD3/ADC1_IN19/COMP1_INP/LCD_SEG9/TIM1_ETR, 13 PB0/ADC1_IN18/COMP1_INP/LCD_SEG10/TIM2_CH1, 14 PB1/ADC1_IN17/COMP1_INP/LCD_SEG11/TIM3_CH1, 15 PB2/ADC1_IN16/COMP1_INP/LCD_SEG12/TIM2_CH2, 16 PB3/ADC1_IN15/COMP1_INP/LCD_SEG13/TIM1_CH2N/TIM2_ETR, 17 PB4/ADC1_IN14/COMP1_INP/DAC_OUT/LCD_SEG14/~{SPI1_NSS}, 18 PB5/ADC1_IN13/COMP1_INP/DAC_OUT/LCD_SEG15/SPI1_SCK, 19 PB6/ADC1_IN12/COMP1_INP/DAC_OUT/LCD_SEG16/SPI1_MOSI, 20 PB7/ADC1_IN11/COMP1_INP/LCD_SEG17/SPI1_MISO, 21 PD4/ADC1_IN10/COMP1_INP/LCD_SEG18/TIM1_CH2, 22 PD5/ADC1_IN9/COMP1_INP/LCD_SEG19/TIM1_CH3, 23 PD6/ADC1_IN8/COMP1_INP/LCD_SEG20/RTC_CALIB/SYS_VREFINT/~{TIM1_BKIN}, 24 PD7/ADC1_IN7/COMP1_INP/LCD_SEG21/RTC_ALARM/SYS_VREFINT/TIM1_CH1N, 25 PC0/I2C1_SDA, 26 PC1/I2C1_SCL, 27 PC2/ADC1_IN6/COMP1_INP/LCD_SEG22/SYS_VREFINT/USART1_RX, 28 PC3/ADC1_IN5/COMP1_INP/COMP2_INM/LCD_SEG23/USART1_TX, 29 PC4/ADC1_IN4/COMP1_INP/COMP2_INM/I2C1_SMB/LCD_SEG24/RCC_CCO/USART1_CK, 30 PC5/RCC_OSC32_IN/~{SPI1_NSS}/USART1_TX, 31 PC6/RCC_OSC32_OUT/SPI1_SCK/USART1_RX, 32 PA0/IR_TIM/~{SYS_BEEP}/SYS_SWIM/USART1_CK


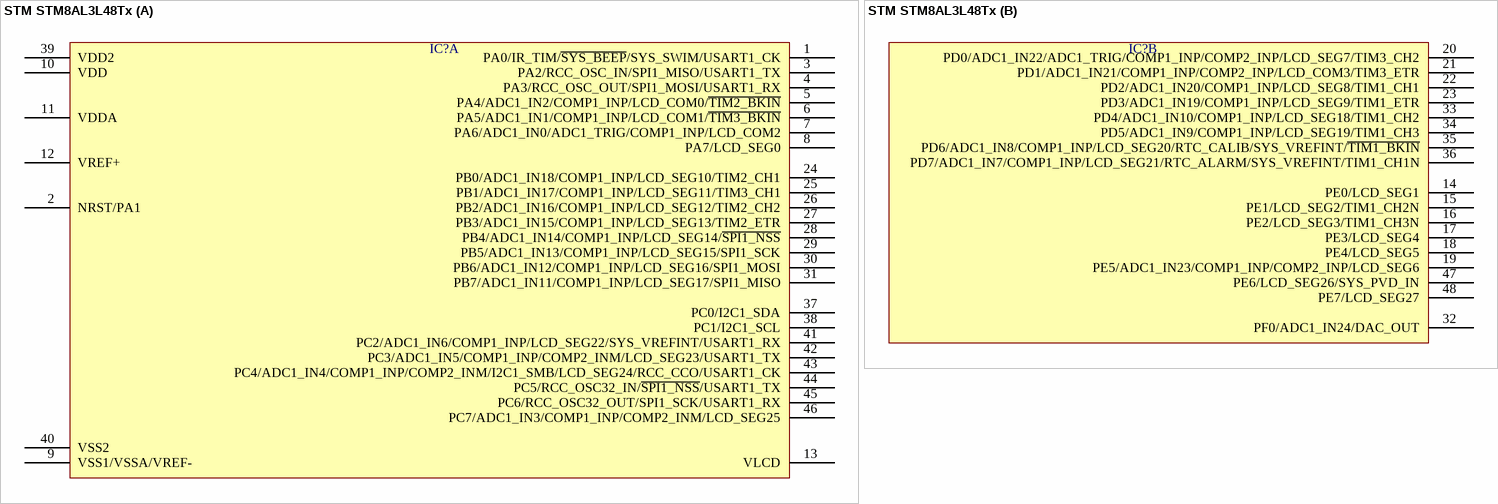
[diagram p622: symbol STM STM8AL3L48Tx]

## STM STM8AL3L48Tx
designator IC?  (value not drawn)
part A pins: 1 PA0/IR_TIM/~{SYS_BEEP}/SYS_SWIM/USART1_CK, 2 NRST/PA1, 3 PA2/RCC_OSC_IN/SPI1_MISO/USART1_TX, 4 PA3/RCC_OSC_OUT/SPI1_MOSI/USART1_RX, 5 PA4/ADC1_IN2/COMP1_INP/LCD_COM0/~{TIM2_BKIN}, 6 PA5/ADC1_IN1/COMP1_INP/LCD_COM1/~{TIM3_BKIN}, 7 PA6/ADC1_IN0/ADC1_TRIG/COMP1_INP/LCD_COM2, 8 PA7/LCD_SEG0, 9 VSS1/VSSA/VREF-, 10 VDD, 11 VDDA, 12 VREF+, 13 VLCD, 24 PB0/ADC1_IN18/COMP1_INP/LCD_SEG10/TIM2_CH1, 25 PB1/ADC1_IN17/COMP1_INP/LCD_SEG11/TIM3_CH1, 26 PB2/ADC1_IN16/COMP1_INP/LCD_SEG12/TIM2_CH2, 27 PB3/ADC1_IN15/COMP1_INP/LCD_SEG13/TIM2_ETR, 28 PB4/ADC1_IN14/COMP1_INP/LCD_SEG14/~{SPI1_NSS}, 29 PB5/ADC1_IN13/COMP1_INP/LCD_SEG15/SPI1_SCK, 30 PB6/ADC1_IN12/COMP1_INP/LCD_SEG16/SPI1_MOSI, 31 PB7/ADC1_IN11/COMP1_INP/LCD_SEG17/SPI1_MISO, 37 PC0/I2C1_SDA, 38 PC1/I2C1_SCL, 39 VDD2, 40 VSS2, 41 PC2/ADC1_IN6/COMP1_INP/LCD_SEG22/SYS_VREFINT/USART1_RX, 42 PC3/ADC1_IN5/COMP1_INP/COMP2_INM/LCD_SEG23/USART1_TX, 43 PC4/ADC1_IN4/COMP1_INP/COMP2_INM/I2C1_SMB/LCD_SEG24/RCC_CCO/USART1_CK, 44 PC5/RCC_OSC32_IN/~{SPI1_NSS}/USART1_TX, 45 PC6/RCC_OSC32_OUT/SPI1_SCK/USART1_RX, 46 PC7/ADC1_IN3/COMP1_INP/COMP2_INM/LCD_SEG25
part B pins: 14 PE0/LCD_SEG1, 15 PE1/LCD_SEG2/TIM1_CH2N, 16 PE2/LCD_SEG3/TIM1_CH3N, 17 PE3/LCD_SEG4, 18 PE4/LCD_SEG5, 19 PE5/ADC1_IN23/COMP1_INP/COMP2_INP/LCD_SEG6, 20 PD0/ADC1_IN22/ADC1_TRIG/COMP1_INP/COMP2_INP/LCD_SEG7/TIM3_CH2, 21 PD1/ADC1_IN21/COMP1_INP/COMP2_INP/LCD_COM3/TIM3_ETR, 22 PD2/ADC1_IN20/COMP1_INP/LCD_SEG8/TIM1_CH1, 23 PD3/ADC1_IN19/COMP1_INP/LCD_SEG9/TIM1_ETR, 32 PF0/ADC1_IN24/DAC_OUT, 33 PD4/ADC1_IN10/COMP1_INP/LCD_SEG18/TIM1_CH2, 34 PD5/ADC1_IN9/COMP1_INP/LCD_SEG19/TIM1_CH3, 35 PD6/ADC1_IN8/COMP1_INP/LCD_SEG20/RTC_CALIB/SYS_VREFINT/~{TIM1_BKIN}, 36 PD7/ADC1_IN7/COMP1_INP/LCD_SEG21/RTC_ALARM/SYS_VREFINT/TIM1_CH1N, 47 PE6/LCD_SEG26/SYS_PVD_IN, 48 PE7/LCD_SEG27


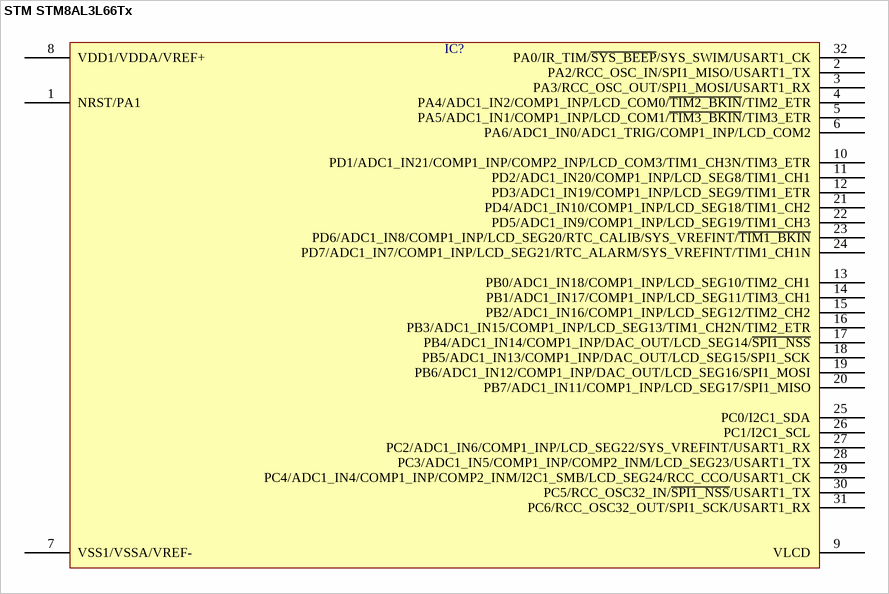
[diagram p623: symbol STM STM8AL3L66Tx]

## STM STM8AL3L66Tx
designator IC?  (value not drawn)
pins: 1 NRST/PA1, 2 PA2/RCC_OSC_IN/SPI1_MISO/USART1_TX, 3 PA3/RCC_OSC_OUT/SPI1_MOSI/USART1_RX, 4 PA4/ADC1_IN2/COMP1_INP/LCD_COM0/~{TIM2_BKIN}/TIM2_ETR, 5 PA5/ADC1_IN1/COMP1_INP/LCD_COM1/~{TIM3_BKIN}/TIM3_ETR, 6 PA6/ADC1_IN0/ADC1_TRIG/COMP1_INP/LCD_COM2, 7 VSS1/VSSA/VREF-, 8 VDD1/VDDA/VREF+, 9 VLCD, 10 PD1/ADC1_IN21/COMP1_INP/COMP2_INP/LCD_COM3/TIM1_CH3N/TIM3_ETR, 11 PD2/ADC1_IN20/COMP1_INP/LCD_SEG8/TIM1_CH1, 12 PD3/ADC1_IN19/COMP1_INP/LCD_SEG9/TIM1_ETR, 13 PB0/ADC1_IN18/COMP1_INP/LCD_SEG10/TIM2_CH1, 14 PB1/ADC1_IN17/COMP1_INP/LCD_SEG11/TIM3_CH1, 15 PB2/ADC1_IN16/COMP1_INP/LCD_SEG12/TIM2_CH2, 16 PB3/ADC1_IN15/COMP1_INP/LCD_SEG13/TIM1_CH2N/TIM2_ETR, 17 PB4/ADC1_IN14/COMP1_INP/DAC_OUT/LCD_SEG14/~{SPI1_NSS}, 18 PB5/ADC1_IN13/COMP1_INP/DAC_OUT/LCD_SEG15/SPI1_SCK, 19 PB6/ADC1_IN12/COMP1_INP/DAC_OUT/LCD_SEG16/SPI1_MOSI, 20 PB7/ADC1_IN11/COMP1_INP/LCD_SEG17/SPI1_MISO, 21 PD4/ADC1_IN10/COMP1_INP/LCD_SEG18/TIM1_CH2, 22 PD5/ADC1_IN9/COMP1_INP/LCD_SEG19/TIM1_CH3, 23 PD6/ADC1_IN8/COMP1_INP/LCD_SEG20/RTC_CALIB/SYS_VREFINT/~{TIM1_BKIN}, 24 PD7/ADC1_IN7/COMP1_INP/LCD_SEG21/RTC_ALARM/SYS_VREFINT/TIM1_CH1N, 25 PC0/I2C1_SDA, 26 PC1/I2C1_SCL, 27 PC2/ADC1_IN6/COMP1_INP/LCD_SEG22/SYS_VREFINT/USART1_RX, 28 PC3/ADC1_IN5/COMP1_INP/COMP2_INM/LCD_SEG23/USART1_TX, 29 PC4/ADC1_IN4/COMP1_INP/COMP2_INM/I2C1_SMB/LCD_SEG24/RCC_CCO/USART1_CK, 30 PC5/RCC_OSC32_IN/~{SPI1_NSS}/USART1_TX, 31 PC6/RCC_OSC32_OUT/SPI1_SCK/USART1_RX, 32 PA0/IR_TIM/~{SYS_BEEP}/SYS_SWIM/USART1_CK


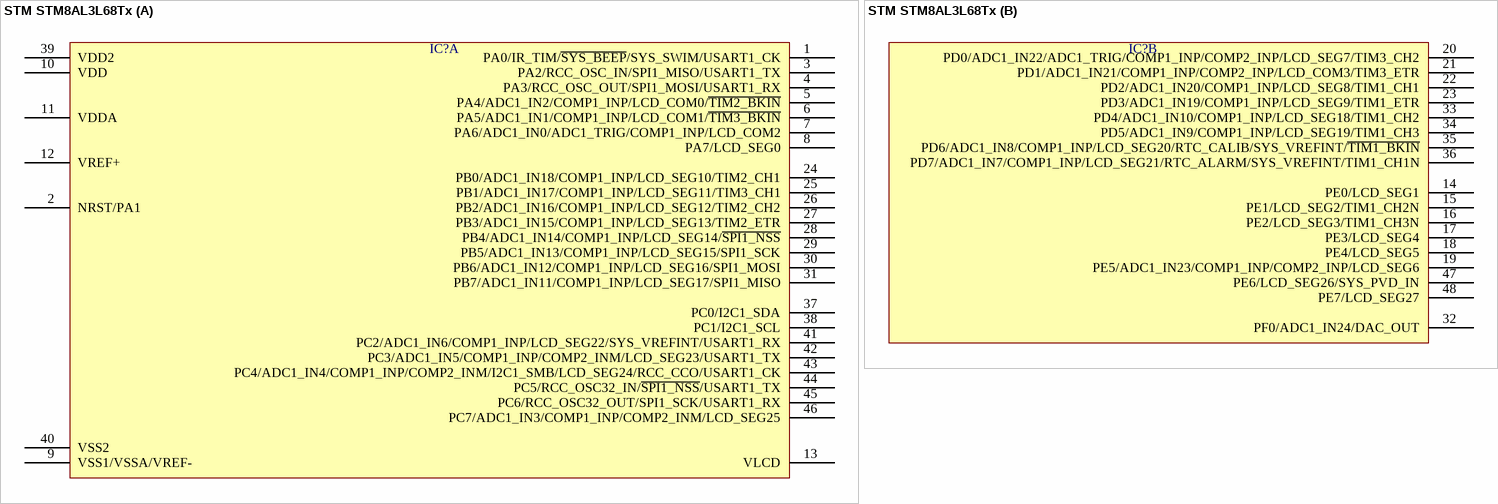
[diagram p624: symbol STM STM8AL3L68Tx]

## STM STM8AL3L68Tx
designator IC?  (value not drawn)
part A pins: 1 PA0/IR_TIM/~{SYS_BEEP}/SYS_SWIM/USART1_CK, 2 NRST/PA1, 3 PA2/RCC_OSC_IN/SPI1_MISO/USART1_TX, 4 PA3/RCC_OSC_OUT/SPI1_MOSI/USART1_RX, 5 PA4/ADC1_IN2/COMP1_INP/LCD_COM0/~{TIM2_BKIN}, 6 PA5/ADC1_IN1/COMP1_INP/LCD_COM1/~{TIM3_BKIN}, 7 PA6/ADC1_IN0/ADC1_TRIG/COMP1_INP/LCD_COM2, 8 PA7/LCD_SEG0, 9 VSS1/VSSA/VREF-, 10 VDD, 11 VDDA, 12 VREF+, 13 VLCD, 24 PB0/ADC1_IN18/COMP1_INP/LCD_SEG10/TIM2_CH1, 25 PB1/ADC1_IN17/COMP1_INP/LCD_SEG11/TIM3_CH1, 26 PB2/ADC1_IN16/COMP1_INP/LCD_SEG12/TIM2_CH2, 27 PB3/ADC1_IN15/COMP1_INP/LCD_SEG13/TIM2_ETR, 28 PB4/ADC1_IN14/COMP1_INP/LCD_SEG14/~{SPI1_NSS}, 29 PB5/ADC1_IN13/COMP1_INP/LCD_SEG15/SPI1_SCK, 30 PB6/ADC1_IN12/COMP1_INP/LCD_SEG16/SPI1_MOSI, 31 PB7/ADC1_IN11/COMP1_INP/LCD_SEG17/SPI1_MISO, 37 PC0/I2C1_SDA, 38 PC1/I2C1_SCL, 39 VDD2, 40 VSS2, 41 PC2/ADC1_IN6/COMP1_INP/LCD_SEG22/SYS_VREFINT/USART1_RX, 42 PC3/ADC1_IN5/COMP1_INP/COMP2_INM/LCD_SEG23/USART1_TX, 43 PC4/ADC1_IN4/COMP1_INP/COMP2_INM/I2C1_SMB/LCD_SEG24/RCC_CCO/USART1_CK, 44 PC5/RCC_OSC32_IN/~{SPI1_NSS}/USART1_TX, 45 PC6/RCC_OSC32_OUT/SPI1_SCK/USART1_RX, 46 PC7/ADC1_IN3/COMP1_INP/COMP2_INM/LCD_SEG25
part B pins: 14 PE0/LCD_SEG1, 15 PE1/LCD_SEG2/TIM1_CH2N, 16 PE2/LCD_SEG3/TIM1_CH3N, 17 PE3/LCD_SEG4, 18 PE4/LCD_SEG5, 19 PE5/ADC1_IN23/COMP1_INP/COMP2_INP/LCD_SEG6, 20 PD0/ADC1_IN22/ADC1_TRIG/COMP1_INP/COMP2_INP/LCD_SEG7/TIM3_CH2, 21 PD1/ADC1_IN21/COMP1_INP/COMP2_INP/LCD_COM3/TIM3_ETR, 22 PD2/ADC1_IN20/COMP1_INP/LCD_SEG8/TIM1_CH1, 23 PD3/ADC1_IN19/COMP1_INP/LCD_SEG9/TIM1_ETR, 32 PF0/ADC1_IN24/DAC_OUT, 33 PD4/ADC1_IN10/COMP1_INP/LCD_SEG18/TIM1_CH2, 34 PD5/ADC1_IN9/COMP1_INP/LCD_SEG19/TIM1_CH3, 35 PD6/ADC1_IN8/COMP1_INP/LCD_SEG20/RTC_CALIB/SYS_VREFINT/~{TIM1_BKIN}, 36 PD7/ADC1_IN7/COMP1_INP/LCD_SEG21/RTC_ALARM/SYS_VREFINT/TIM1_CH1N, 47 PE6/LCD_SEG26/SYS_PVD_IN, 48 PE7/LCD_SEG27


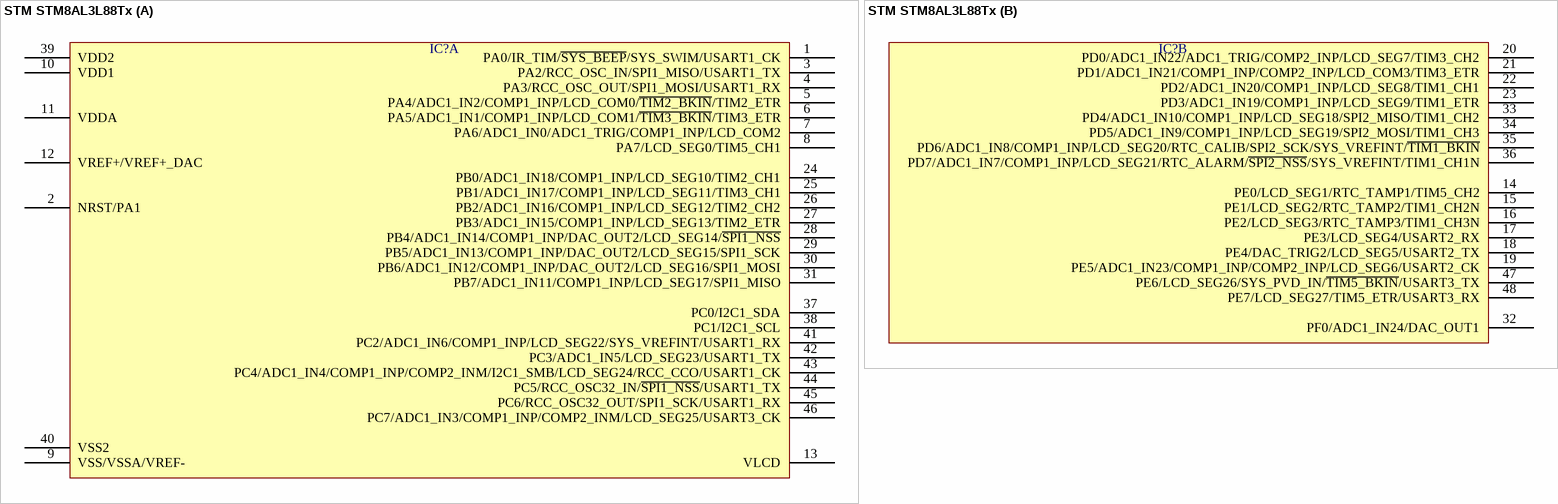
[diagram p625: symbol STM STM8AL3L88Tx]

## STM STM8AL3L88Tx
designator IC?  (value not drawn)
part A pins: 1 PA0/IR_TIM/~{SYS_BEEP}/SYS_SWIM/USART1_CK, 2 NRST/PA1, 3 PA2/RCC_OSC_IN/SPI1_MISO/USART1_TX, 4 PA3/RCC_OSC_OUT/SPI1_MOSI/USART1_RX, 5 PA4/ADC1_IN2/COMP1_INP/LCD_COM0/~{TIM2_BKIN}/TIM2_ETR, 6 PA5/ADC1_IN1/COMP1_INP/LCD_COM1/~{TIM3_BKIN}/TIM3_ETR, 7 PA6/ADC1_IN0/ADC1_TRIG/COMP1_INP/LCD_COM2, 8 PA7/LCD_SEG0/TIM5_CH1, 9 VSS/VSSA/VREF-, 10 VDD1, 11 VDDA, 12 VREF+/VREF+_DAC, 13 VLCD, 24 PB0/ADC1_IN18/COMP1_INP/LCD_SEG10/TIM2_CH1, 25 PB1/ADC1_IN17/COMP1_INP/LCD_SEG11/TIM3_CH1, 26 PB2/ADC1_IN16/COMP1_INP/LCD_SEG12/TIM2_CH2, 27 PB3/ADC1_IN15/COMP1_INP/LCD_SEG13/TIM2_ETR, 28 PB4/ADC1_IN14/COMP1_INP/DAC_OUT2/LCD_SEG14/~{SPI1_NSS}, 29 PB5/ADC1_IN13/COMP1_INP/DAC_OUT2/LCD_SEG15/SPI1_SCK, 30 PB6/ADC1_IN12/COMP1_INP/DAC_OUT2/LCD_SEG16/SPI1_MOSI, 31 PB7/ADC1_IN11/COMP1_INP/LCD_SEG17/SPI1_MISO, 37 PC0/I2C1_SDA, 38 PC1/I2C1_SCL, 39 VDD2, 40 VSS2, 41 PC2/ADC1_IN6/COMP1_INP/LCD_SEG22/SYS_VREFINT/USART1_RX, 42 PC3/ADC1_IN5/LCD_SEG23/USART1_TX, 43 PC4/ADC1_IN4/COMP1_INP/COMP2_INM/I2C1_SMB/LCD_SEG24/RCC_CCO/USART1_CK, 44 PC5/RCC_OSC32_IN/~{SPI1_NSS}/USART1_TX, 45 PC6/RCC_OSC32_OUT/SPI1_SCK/USART1_RX, 46 PC7/ADC1_IN3/COMP1_INP/COMP2_INM/LCD_SEG25/USART3_CK
part B pins: 14 PE0/LCD_SEG1/RTC_TAMP1/TIM5_CH2, 15 PE1/LCD_SEG2/RTC_TAMP2/TIM1_CH2N, 16 PE2/LCD_SEG3/RTC_TAMP3/TIM1_CH3N, 17 PE3/LCD_SEG4/USART2_RX, 18 PE4/DAC_TRIG2/LCD_SEG5/USART2_TX, 19 PE5/ADC1_IN23/COMP1_INP/COMP2_INP/LCD_SEG6/USART2_CK, 20 PD0/ADC1_IN22/ADC1_TRIG/COMP2_INP/LCD_SEG7/TIM3_CH2, 21 PD1/ADC1_IN21/COMP1_INP/COMP2_INP/LCD_COM3/TIM3_ETR, 22 PD2/ADC1_IN20/COMP1_INP/LCD_SEG8/TIM1_CH1, 23 PD3/ADC1_IN19/COMP1_INP/LCD_SEG9/TIM1_ETR, 32 PF0/ADC1_IN24/DAC_OUT1, 33 PD4/ADC1_IN10/COMP1_INP/LCD_SEG18/SPI2_MISO/TIM1_CH2, 34 PD5/ADC1_IN9/COMP1_INP/LCD_SEG19/SPI2_MOSI/TIM1_CH3, 35 PD6/ADC1_IN8/COMP1_INP/LCD_SEG20/RTC_CALIB/SPI2_SCK/SYS_VREFINT/~{TIM1_BKIN}, 36 PD7/ADC1_IN7/COMP1_INP/LCD_SEG21/RTC_ALARM/~{SPI2_NSS}/SYS_VREFINT/TIM1_CH1N, 47 PE6/LCD_SEG26/SYS_PVD_IN/~{TIM5_BKIN}/USART3_TX, 48 PE7/LCD_SEG27/TIM5_ETR/USART3_RX


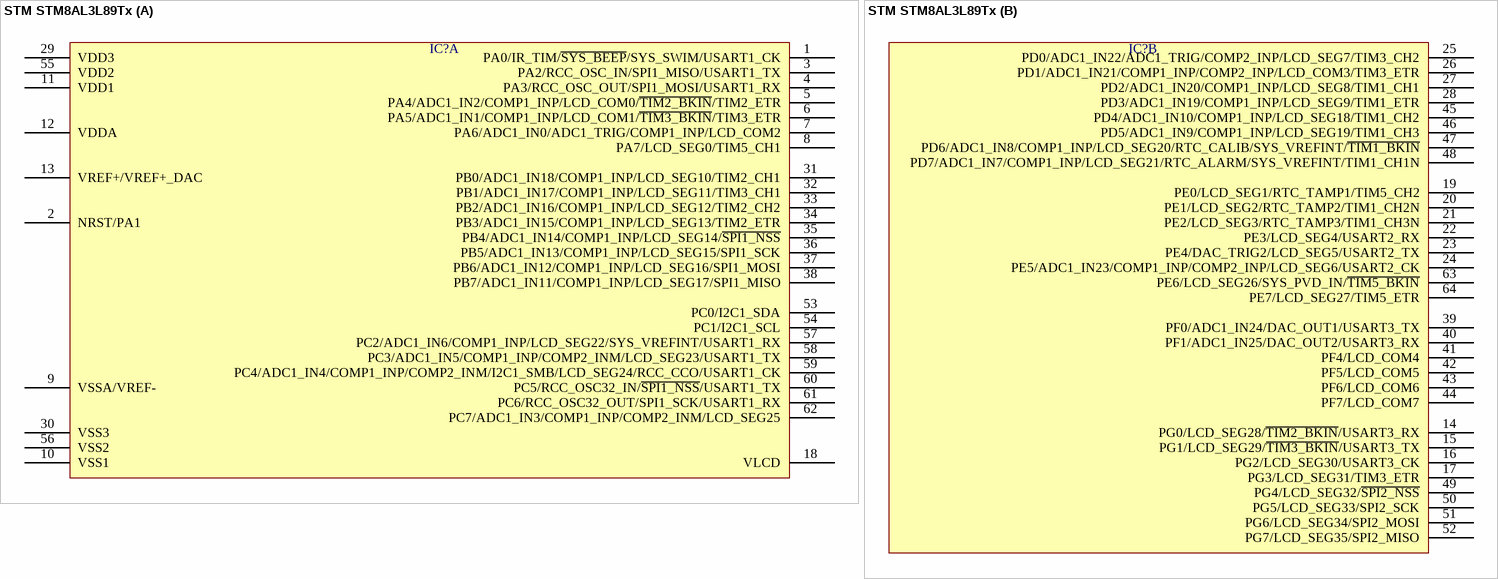
[diagram p626: symbol STM STM8AL3L89Tx]

## STM STM8AL3L89Tx
designator IC?  (value not drawn)
part A pins: 1 PA0/IR_TIM/~{SYS_BEEP}/SYS_SWIM/USART1_CK, 2 NRST/PA1, 3 PA2/RCC_OSC_IN/SPI1_MISO/USART1_TX, 4 PA3/RCC_OSC_OUT/SPI1_MOSI/USART1_RX, 5 PA4/ADC1_IN2/COMP1_INP/LCD_COM0/~{TIM2_BKIN}/TIM2_ETR, 6 PA5/ADC1_IN1/COMP1_INP/LCD_COM1/~{TIM3_BKIN}/TIM3_ETR, 7 PA6/ADC1_IN0/ADC1_TRIG/COMP1_INP/LCD_COM2, 8 PA7/LCD_SEG0/TIM5_CH1, 9 VSSA/VREF-, 10 VSS1, 11 VDD1, 12 VDDA, 13 VREF+/VREF+_DAC, 18 VLCD, 29 VDD3, 30 VSS3, 31 PB0/ADC1_IN18/COMP1_INP/LCD_SEG10/TIM2_CH1, 32 PB1/ADC1_IN17/COMP1_INP/LCD_SEG11/TIM3_CH1, 33 PB2/ADC1_IN16/COMP1_INP/LCD_SEG12/TIM2_CH2, 34 PB3/ADC1_IN15/COMP1_INP/LCD_SEG13/TIM2_ETR, 35 PB4/ADC1_IN14/COMP1_INP/LCD_SEG14/~{SPI1_NSS}, 36 PB5/ADC1_IN13/COMP1_INP/LCD_SEG15/SPI1_SCK, 37 PB6/ADC1_IN12/COMP1_INP/LCD_SEG16/SPI1_MOSI, 38 PB7/ADC1_IN11/COMP1_INP/LCD_SEG17/SPI1_MISO, 53 PC0/I2C1_SDA, 54 PC1/I2C1_SCL, 55 VDD2, 56 VSS2, 57 PC2/ADC1_IN6/COMP1_INP/LCD_SEG22/SYS_VREFINT/USART1_RX, 58 PC3/ADC1_IN5/COMP1_INP/COMP2_INM/LCD_SEG23/USART1_TX, 59 PC4/ADC1_IN4/COMP1_INP/COMP2_INM/I2C1_SMB/LCD_SEG24/RCC_CCO/USART1_CK, 60 PC5/RCC_OSC32_IN/~{SPI1_NSS}/USART1_TX, 61 PC6/RCC_OSC32_OUT/SPI1_SCK/USART1_RX, 62 PC7/ADC1_IN3/COMP1_INP/COMP2_INM/LCD_SEG25
part B pins: 14 PG0/LCD_SEG28/~{TIM2_BKIN}/USART3_RX, 15 PG1/LCD_SEG29/~{TIM3_BKIN}/USART3_TX, 16 PG2/LCD_SEG30/USART3_CK, 17 PG3/LCD_SEG31/TIM3_ETR, 19 PE0/LCD_SEG1/RTC_TAMP1/TIM5_CH2, 20 PE1/LCD_SEG2/RTC_TAMP2/TIM1_CH2N, 21 PE2/LCD_SEG3/RTC_TAMP3/TIM1_CH3N, 22 PE3/LCD_SEG4/USART2_RX, 23 PE4/DAC_TRIG2/LCD_SEG5/USART2_TX, 24 PE5/ADC1_IN23/COMP1_INP/COMP2_INP/LCD_SEG6/USART2_CK, 25 PD0/ADC1_IN22/ADC1_TRIG/COMP2_INP/LCD_SEG7/TIM3_CH2, 26 PD1/ADC1_IN21/COMP1_INP/COMP2_INP/LCD_COM3/TIM3_ETR, 27 PD2/ADC1_IN20/COMP1_INP/LCD_SEG8/TIM1_CH1, 28 PD3/ADC1_IN19/COMP1_INP/LCD_SEG9/TIM1_ETR, 39 PF0/ADC1_IN24/DAC_OUT1/USART3_TX, 40 PF1/ADC1_IN25/DAC_OUT2/USART3_RX, 41 PF4/LCD_COM4, 42 PF5/LCD_COM5, 43 PF6/LCD_COM6, 44 PF7/LCD_COM7, 45 PD4/ADC1_IN10/COMP1_INP/LCD_SEG18/TIM1_CH2, 46 PD5/ADC1_IN9/COMP1_INP/LCD_SEG19/TIM1_CH3, 47 PD6/ADC1_IN8/COMP1_INP/LCD_SEG20/RTC_CALIB/SYS_VREFINT/~{TIM1_BKIN}, 48 PD7/ADC1_IN7/COMP1_INP/LCD_SEG21/RTC_ALARM/SYS_VREFINT/TIM1_CH1N, 49 PG4/LCD_SEG32/~{SPI2_NSS}, 50 PG5/LCD_SEG33/SPI2_SCK, 51 PG6/LCD_SEG34/SPI2_MOSI, 52 PG7/LCD_SEG35/SPI2_MISO, 63 PE6/LCD_SEG26/SYS_PVD_IN/~{TIM5_BKIN}, 64 PE7/LCD_SEG27/TIM5_ETR


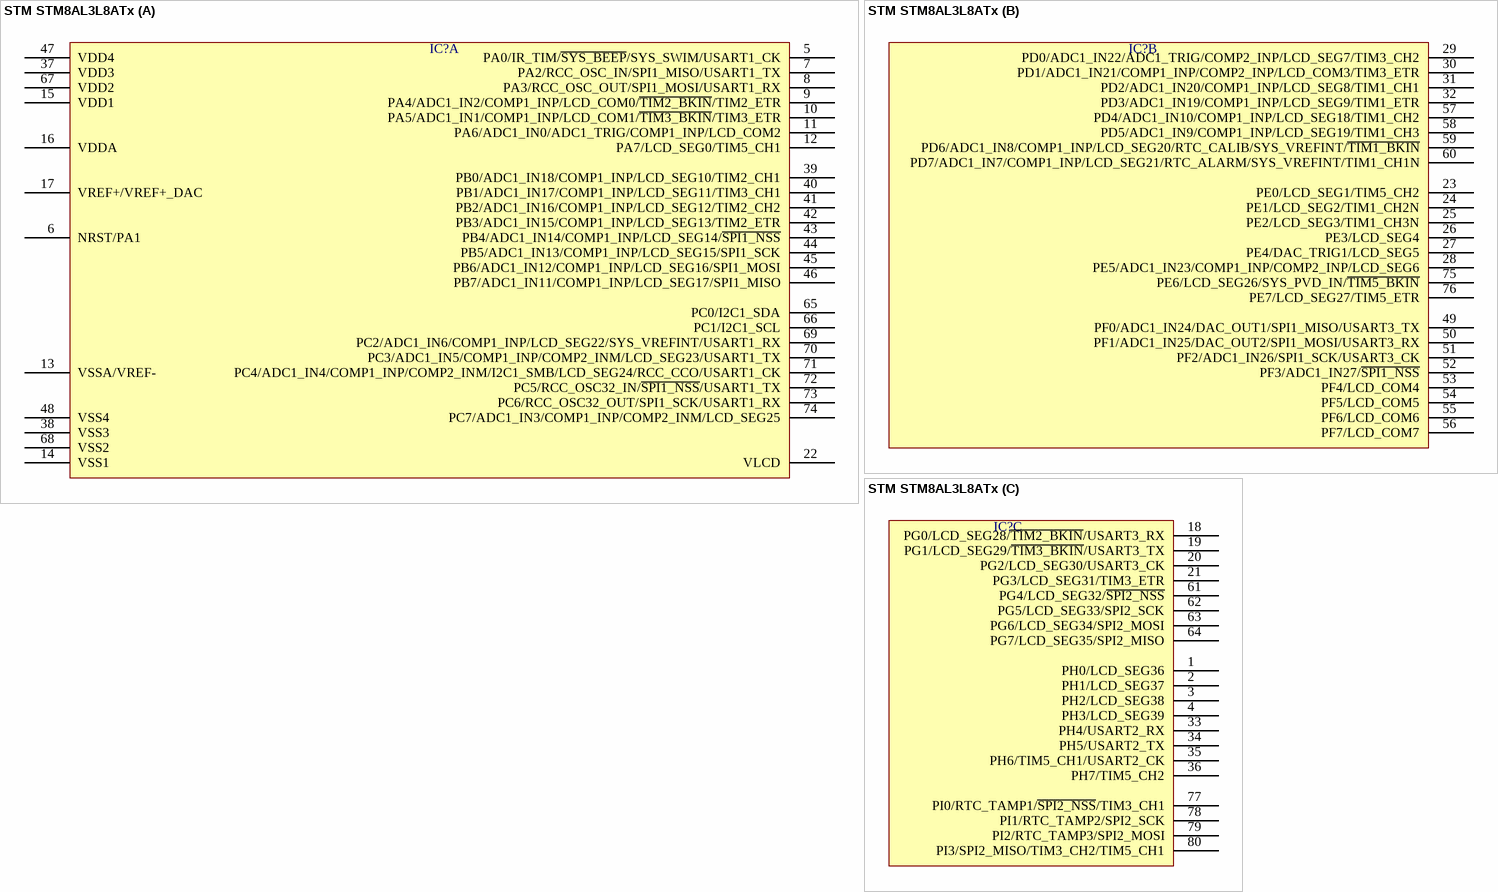
[diagram p627: symbol STM STM8AL3L8ATx]

## STM STM8AL3L8ATx
designator IC?  (value not drawn)
part A pins: 5 PA0/IR_TIM/~{SYS_BEEP}/SYS_SWIM/USART1_CK, 6 NRST/PA1, 7 PA2/RCC_OSC_IN/SPI1_MISO/USART1_TX, 8 PA3/RCC_OSC_OUT/SPI1_MOSI/USART1_RX, 9 PA4/ADC1_IN2/COMP1_INP/LCD_COM0/~{TIM2_BKIN}/TIM2_ETR, 10 PA5/ADC1_IN1/COMP1_INP/LCD_COM1/~{TIM3_BKIN}/TIM3_ETR, 11 PA6/ADC1_IN0/ADC1_TRIG/COMP1_INP/LCD_COM2, 12 PA7/LCD_SEG0/TIM5_CH1, 13 VSSA/VREF-, 14 VSS1, 15 VDD1, 16 VDDA, 17 VREF+/VREF+_DAC, 22 VLCD, 37 VDD3, 38 VSS3, 39 PB0/ADC1_IN18/COMP1_INP/LCD_SEG10/TIM2_CH1, 40 PB1/ADC1_IN17/COMP1_INP/LCD_SEG11/TIM3_CH1, 41 PB2/ADC1_IN16/COMP1_INP/LCD_SEG12/TIM2_CH2, 42 PB3/ADC1_IN15/COMP1_INP/LCD_SEG13/TIM2_ETR, 43 PB4/ADC1_IN14/COMP1_INP/LCD_SEG14/~{SPI1_NSS}, 44 PB5/ADC1_IN13/COMP1_INP/LCD_SEG15/SPI1_SCK, 45 PB6/ADC1_IN12/COMP1_INP/LCD_SEG16/SPI1_MOSI, 46 PB7/ADC1_IN11/COMP1_INP/LCD_SEG17/SPI1_MISO, 47 VDD4, 48 VSS4, 65 PC0/I2C1_SDA, 66 PC1/I2C1_SCL, 67 VDD2, 68 VSS2, 69 PC2/ADC1_IN6/COMP1_INP/LCD_SEG22/SYS_VREFINT/USART1_RX, 70 PC3/ADC1_IN5/COMP1_INP/COMP2_INM/LCD_SEG23/USART1_TX, 71 PC4/ADC1_IN4/COMP1_INP/COMP2_INM/I2C1_SMB/LCD_SEG24/RCC_CCO/USART1_CK, 72 PC5/RCC_OSC32_IN/~{SPI1_NSS}/USART1_TX, 73 PC6/RCC_OSC32_OUT/SPI1_SCK/USART1_RX, 74 PC7/ADC1_IN3/COMP1_INP/COMP2_INM/LCD_SEG25
part B pins: 23 PE0/LCD_SEG1/TIM5_CH2, 24 PE1/LCD_SEG2/TIM1_CH2N, 25 PE2/LCD_SEG3/TIM1_CH3N, 26 PE3/LCD_SEG4, 27 PE4/DAC_TRIG1/LCD_SEG5, 28 PE5/ADC1_IN23/COMP1_INP/COMP2_INP/LCD_SEG6, 29 PD0/ADC1_IN22/ADC1_TRIG/COMP2_INP/LCD_SEG7/TIM3_CH2, 30 PD1/ADC1_IN21/COMP1_INP/COMP2_INP/LCD_COM3/TIM3_ETR, 31 PD2/ADC1_IN20/COMP1_INP/LCD_SEG8/TIM1_CH1, 32 PD3/ADC1_IN19/COMP1_INP/LCD_SEG9/TIM1_ETR, 49 PF0/ADC1_IN24/DAC_OUT1/SPI1_MISO/USART3_TX, 50 PF1/ADC1_IN25/DAC_OUT2/SPI1_MOSI/USART3_RX, 51 PF2/ADC1_IN26/SPI1_SCK/USART3_CK, 52 PF3/ADC1_IN27/~{SPI1_NSS}, 53 PF4/LCD_COM4, 54 PF5/LCD_COM5, 55 PF6/LCD_COM6, 56 PF7/LCD_COM7, 57 PD4/ADC1_IN10/COMP1_INP/LCD_SEG18/TIM1_CH2, 58 PD5/ADC1_IN9/COMP1_INP/LCD_SEG19/TIM1_CH3, 59 PD6/ADC1_IN8/COMP1_INP/LCD_SEG20/RTC_CALIB/SYS_VREFINT/~{TIM1_BKIN}, 60 PD7/ADC1_IN7/COMP1_INP/LCD_SEG21/RTC_ALARM/SYS_VREFINT/TIM1_CH1N, 75 PE6/LCD_SEG26/SYS_PVD_IN/~{TIM5_BKIN}, 76 PE7/LCD_SEG27/TIM5_ETR
part C pins: 1 PH0/LCD_SEG36, 2 PH1/LCD_SEG37, 3 PH2/LCD_SEG38, 4 PH3/LCD_SEG39, 18 PG0/LCD_SEG28/~{TIM2_BKIN}/USART3_RX, 19 PG1/LCD_SEG29/~{TIM3_BKIN}/USART3_TX, 20 PG2/LCD_SEG30/USART3_CK, 21 PG3/LCD_SEG31/TIM3_ETR, 33 PH4/USART2_RX, 34 PH5/USART2_TX, 35 PH6/TIM5_CH1/USART2_CK, 36 PH7/TIM5_CH2, 61 PG4/LCD_SEG32/~{SPI2_NSS}, 62 PG5/LCD_SEG33/SPI2_SCK, 63 PG6/LCD_SEG34/SPI2_MOSI, 64 PG7/LCD_SEG35/SPI2_MISO, 77 PI0/RTC_TAMP1/~{SPI2_NSS}/TIM3_CH1, 78 PI1/RTC_TAMP2/SPI2_SCK, 79 PI2/RTC_TAMP3/SPI2_MOSI, 80 PI3/SPI2_MISO/TIM3_CH2/TIM5_CH1


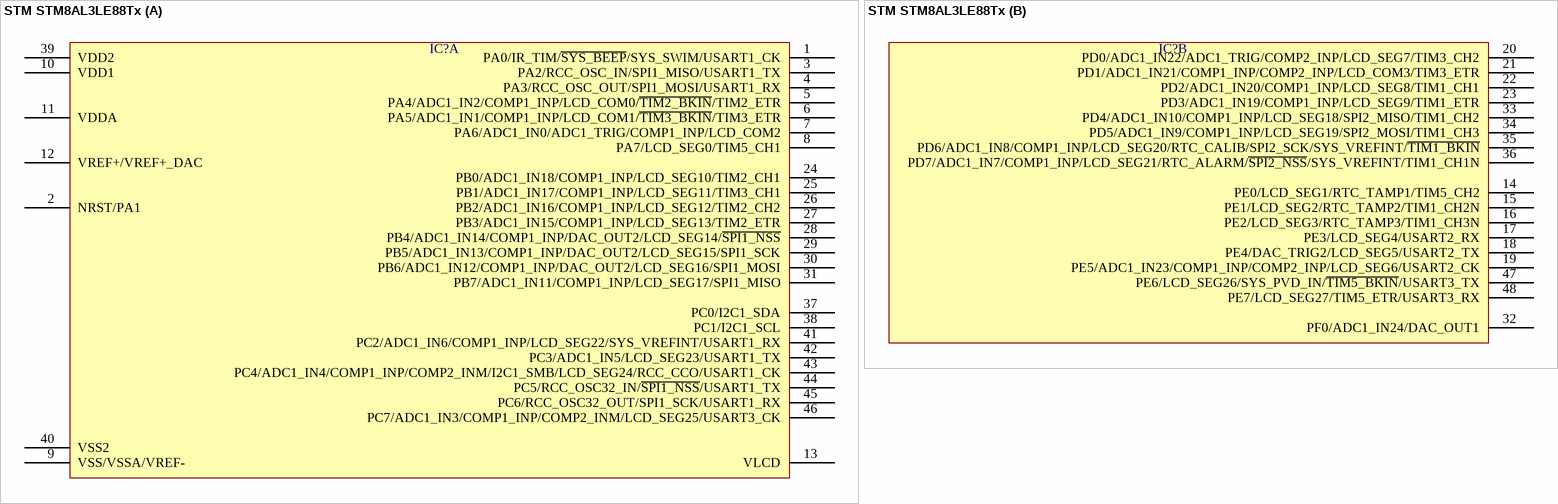
[diagram p628: symbol STM STM8AL3LE88Tx]

## STM STM8AL3LE88Tx
designator IC?  (value not drawn)
part A pins: 1 PA0/IR_TIM/~{SYS_BEEP}/SYS_SWIM/USART1_CK, 2 NRST/PA1, 3 PA2/RCC_OSC_IN/SPI1_MISO/USART1_TX, 4 PA3/RCC_OSC_OUT/SPI1_MOSI/USART1_RX, 5 PA4/ADC1_IN2/COMP1_INP/LCD_COM0/~{TIM2_BKIN}/TIM2_ETR, 6 PA5/ADC1_IN1/COMP1_INP/LCD_COM1/~{TIM3_BKIN}/TIM3_ETR, 7 PA6/ADC1_IN0/ADC1_TRIG/COMP1_INP/LCD_COM2, 8 PA7/LCD_SEG0/TIM5_CH1, 9 VSS/VSSA/VREF-, 10 VDD1, 11 VDDA, 12 VREF+/VREF+_DAC, 13 VLCD, 24 PB0/ADC1_IN18/COMP1_INP/LCD_SEG10/TIM2_CH1, 25 PB1/ADC1_IN17/COMP1_INP/LCD_SEG11/TIM3_CH1, 26 PB2/ADC1_IN16/COMP1_INP/LCD_SEG12/TIM2_CH2, 27 PB3/ADC1_IN15/COMP1_INP/LCD_SEG13/TIM2_ETR, 28 PB4/ADC1_IN14/COMP1_INP/DAC_OUT2/LCD_SEG14/~{SPI1_NSS}, 29 PB5/ADC1_IN13/COMP1_INP/DAC_OUT2/LCD_SEG15/SPI1_SCK, 30 PB6/ADC1_IN12/COMP1_INP/DAC_OUT2/LCD_SEG16/SPI1_MOSI, 31 PB7/ADC1_IN11/COMP1_INP/LCD_SEG17/SPI1_MISO, 37 PC0/I2C1_SDA, 38 PC1/I2C1_SCL, 39 VDD2, 40 VSS2, 41 PC2/ADC1_IN6/COMP1_INP/LCD_SEG22/SYS_VREFINT/USART1_RX, 42 PC3/ADC1_IN5/LCD_SEG23/USART1_TX, 43 PC4/ADC1_IN4/COMP1_INP/COMP2_INM/I2C1_SMB/LCD_SEG24/RCC_CCO/USART1_CK, 44 PC5/RCC_OSC32_IN/~{SPI1_NSS}/USART1_TX, 45 PC6/RCC_OSC32_OUT/SPI1_SCK/USART1_RX, 46 PC7/ADC1_IN3/COMP1_INP/COMP2_INM/LCD_SEG25/USART3_CK
part B pins: 14 PE0/LCD_SEG1/RTC_TAMP1/TIM5_CH2, 15 PE1/LCD_SEG2/RTC_TAMP2/TIM1_CH2N, 16 PE2/LCD_SEG3/RTC_TAMP3/TIM1_CH3N, 17 PE3/LCD_SEG4/USART2_RX, 18 PE4/DAC_TRIG2/LCD_SEG5/USART2_TX, 19 PE5/ADC1_IN23/COMP1_INP/COMP2_INP/LCD_SEG6/USART2_CK, 20 PD0/ADC1_IN22/ADC1_TRIG/COMP2_INP/LCD_SEG7/TIM3_CH2, 21 PD1/ADC1_IN21/COMP1_INP/COMP2_INP/LCD_COM3/TIM3_ETR, 22 PD2/ADC1_IN20/COMP1_INP/LCD_SEG8/TIM1_CH1, 23 PD3/ADC1_IN19/COMP1_INP/LCD_SEG9/TIM1_ETR, 32 PF0/ADC1_IN24/DAC_OUT1, 33 PD4/ADC1_IN10/COMP1_INP/LCD_SEG18/SPI2_MISO/TIM1_CH2, 34 PD5/ADC1_IN9/COMP1_INP/LCD_SEG19/SPI2_MOSI/TIM1_CH3, 35 PD6/ADC1_IN8/COMP1_INP/LCD_SEG20/RTC_CALIB/SPI2_SCK/SYS_VREFINT/~{TIM1_BKIN}, 36 PD7/ADC1_IN7/COMP1_INP/LCD_SEG21/RTC_ALARM/~{SPI2_NSS}/SYS_VREFINT/TIM1_CH1N, 47 PE6/LCD_SEG26/SYS_PVD_IN/~{TIM5_BKIN}/USART3_TX, 48 PE7/LCD_SEG27/TIM5_ETR/USART3_RX


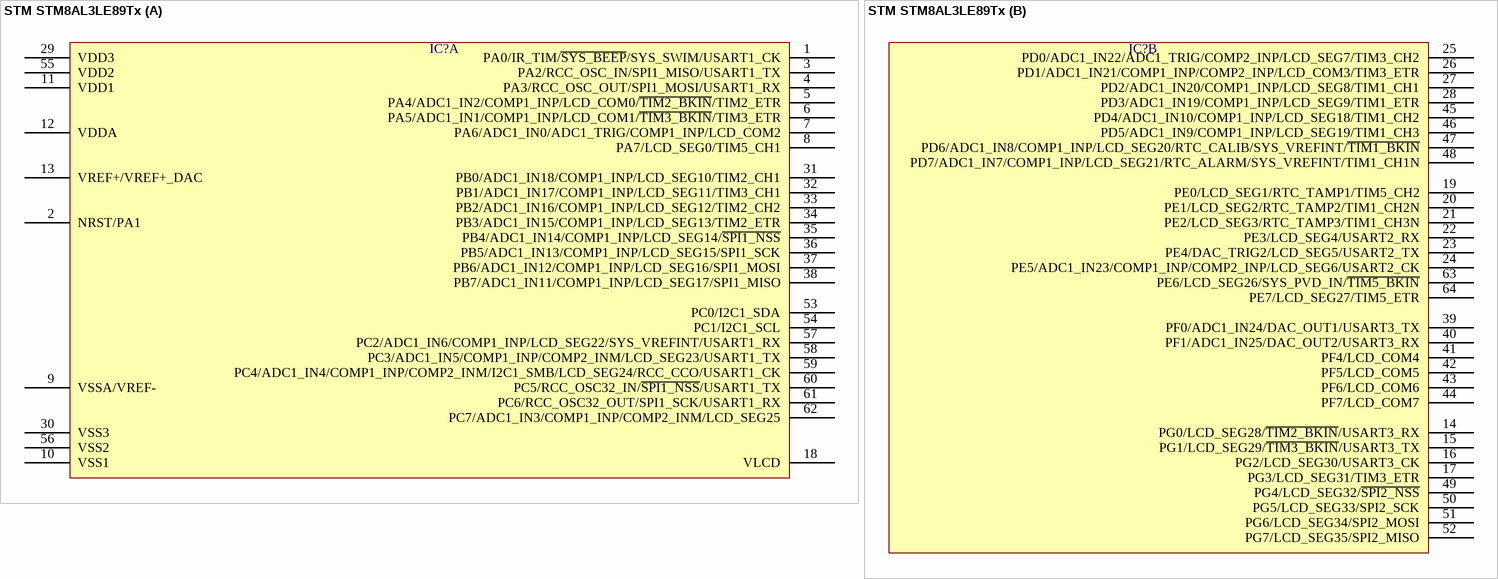
[diagram p629: symbol STM STM8AL3LE89Tx]

## STM STM8AL3LE89Tx
designator IC?  (value not drawn)
part A pins: 1 PA0/IR_TIM/~{SYS_BEEP}/SYS_SWIM/USART1_CK, 2 NRST/PA1, 3 PA2/RCC_OSC_IN/SPI1_MISO/USART1_TX, 4 PA3/RCC_OSC_OUT/SPI1_MOSI/USART1_RX, 5 PA4/ADC1_IN2/COMP1_INP/LCD_COM0/~{TIM2_BKIN}/TIM2_ETR, 6 PA5/ADC1_IN1/COMP1_INP/LCD_COM1/~{TIM3_BKIN}/TIM3_ETR, 7 PA6/ADC1_IN0/ADC1_TRIG/COMP1_INP/LCD_COM2, 8 PA7/LCD_SEG0/TIM5_CH1, 9 VSSA/VREF-, 10 VSS1, 11 VDD1, 12 VDDA, 13 VREF+/VREF+_DAC, 18 VLCD, 29 VDD3, 30 VSS3, 31 PB0/ADC1_IN18/COMP1_INP/LCD_SEG10/TIM2_CH1, 32 PB1/ADC1_IN17/COMP1_INP/LCD_SEG11/TIM3_CH1, 33 PB2/ADC1_IN16/COMP1_INP/LCD_SEG12/TIM2_CH2, 34 PB3/ADC1_IN15/COMP1_INP/LCD_SEG13/TIM2_ETR, 35 PB4/ADC1_IN14/COMP1_INP/LCD_SEG14/~{SPI1_NSS}, 36 PB5/ADC1_IN13/COMP1_INP/LCD_SEG15/SPI1_SCK, 37 PB6/ADC1_IN12/COMP1_INP/LCD_SEG16/SPI1_MOSI, 38 PB7/ADC1_IN11/COMP1_INP/LCD_SEG17/SPI1_MISO, 53 PC0/I2C1_SDA, 54 PC1/I2C1_SCL, 55 VDD2, 56 VSS2, 57 PC2/ADC1_IN6/COMP1_INP/LCD_SEG22/SYS_VREFINT/USART1_RX, 58 PC3/ADC1_IN5/COMP1_INP/COMP2_INM/LCD_SEG23/USART1_TX, 59 PC4/ADC1_IN4/COMP1_INP/COMP2_INM/I2C1_SMB/LCD_SEG24/RCC_CCO/USART1_CK, 60 PC5/RCC_OSC32_IN/~{SPI1_NSS}/USART1_TX, 61 PC6/RCC_OSC32_OUT/SPI1_SCK/USART1_RX, 62 PC7/ADC1_IN3/COMP1_INP/COMP2_INM/LCD_SEG25
part B pins: 14 PG0/LCD_SEG28/~{TIM2_BKIN}/USART3_RX, 15 PG1/LCD_SEG29/~{TIM3_BKIN}/USART3_TX, 16 PG2/LCD_SEG30/USART3_CK, 17 PG3/LCD_SEG31/TIM3_ETR, 19 PE0/LCD_SEG1/RTC_TAMP1/TIM5_CH2, 20 PE1/LCD_SEG2/RTC_TAMP2/TIM1_CH2N, 21 PE2/LCD_SEG3/RTC_TAMP3/TIM1_CH3N, 22 PE3/LCD_SEG4/USART2_RX, 23 PE4/DAC_TRIG2/LCD_SEG5/USART2_TX, 24 PE5/ADC1_IN23/COMP1_INP/COMP2_INP/LCD_SEG6/USART2_CK, 25 PD0/ADC1_IN22/ADC1_TRIG/COMP2_INP/LCD_SEG7/TIM3_CH2, 26 PD1/ADC1_IN21/COMP1_INP/COMP2_INP/LCD_COM3/TIM3_ETR, 27 PD2/ADC1_IN20/COMP1_INP/LCD_SEG8/TIM1_CH1, 28 PD3/ADC1_IN19/COMP1_INP/LCD_SEG9/TIM1_ETR, 39 PF0/ADC1_IN24/DAC_OUT1/USART3_TX, 40 PF1/ADC1_IN25/DAC_OUT2/USART3_RX, 41 PF4/LCD_COM4, 42 PF5/LCD_COM5, 43 PF6/LCD_COM6, 44 PF7/LCD_COM7, 45 PD4/ADC1_IN10/COMP1_INP/LCD_SEG18/TIM1_CH2, 46 PD5/ADC1_IN9/COMP1_INP/LCD_SEG19/TIM1_CH3, 47 PD6/ADC1_IN8/COMP1_INP/LCD_SEG20/RTC_CALIB/SYS_VREFINT/~{TIM1_BKIN}, 48 PD7/ADC1_IN7/COMP1_INP/LCD_SEG21/RTC_ALARM/SYS_VREFINT/TIM1_CH1N, 49 PG4/LCD_SEG32/~{SPI2_NSS}, 50 PG5/LCD_SEG33/SPI2_SCK, 51 PG6/LCD_SEG34/SPI2_MOSI, 52 PG7/LCD_SEG35/SPI2_MISO, 63 PE6/LCD_SEG26/SYS_PVD_IN/~{TIM5_BKIN}, 64 PE7/LCD_SEG27/TIM5_ETR


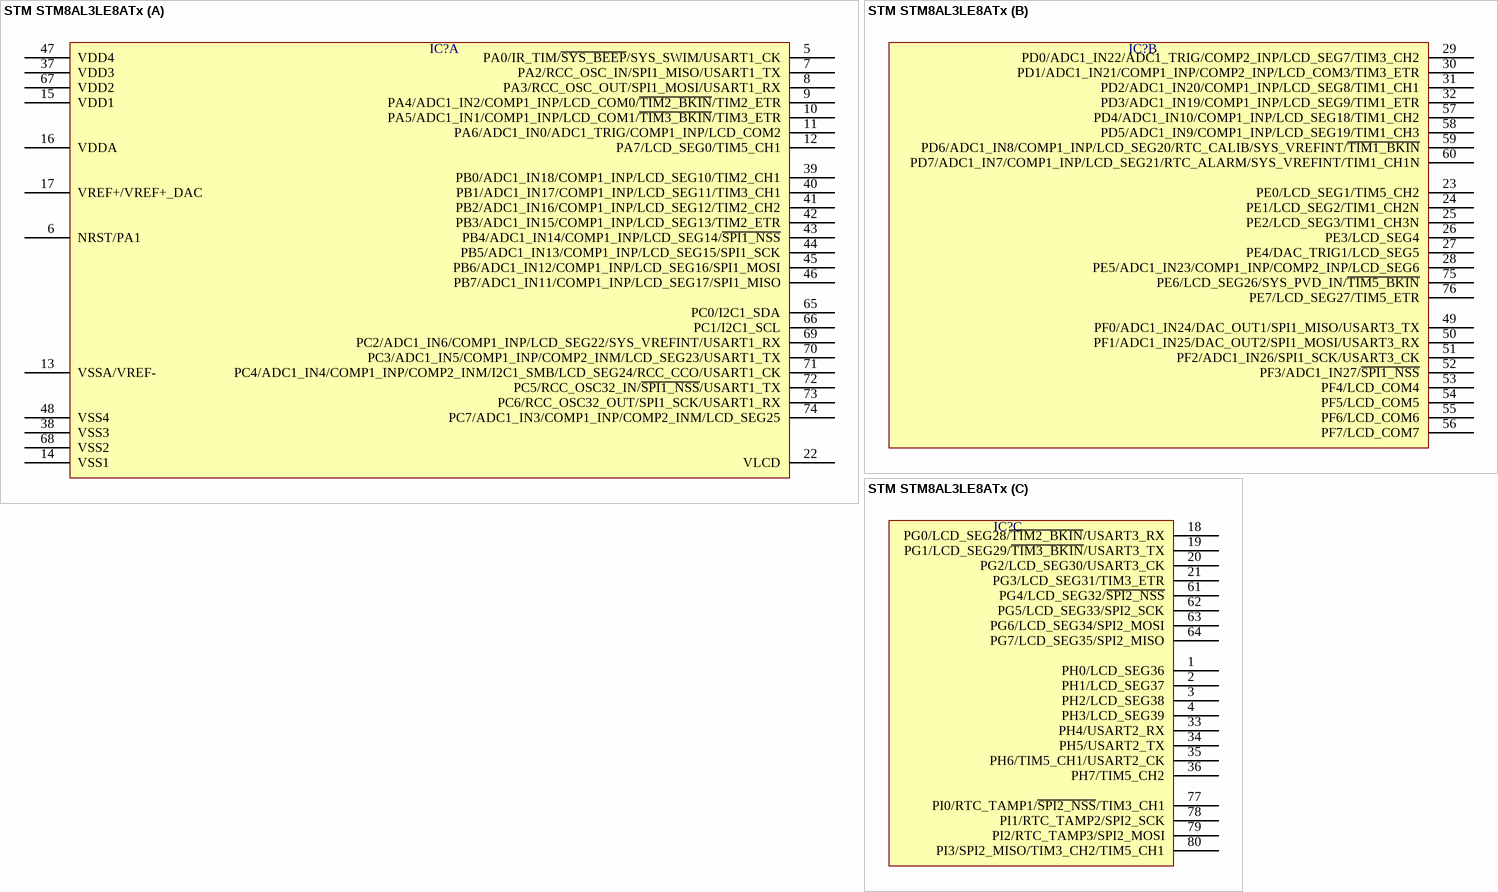
[diagram p630: symbol STM STM8AL3LE8ATx]

## STM STM8AL3LE8ATx
designator IC?  (value not drawn)
part A pins: 5 PA0/IR_TIM/~{SYS_BEEP}/SYS_SWIM/USART1_CK, 6 NRST/PA1, 7 PA2/RCC_OSC_IN/SPI1_MISO/USART1_TX, 8 PA3/RCC_OSC_OUT/SPI1_MOSI/USART1_RX, 9 PA4/ADC1_IN2/COMP1_INP/LCD_COM0/~{TIM2_BKIN}/TIM2_ETR, 10 PA5/ADC1_IN1/COMP1_INP/LCD_COM1/~{TIM3_BKIN}/TIM3_ETR, 11 PA6/ADC1_IN0/ADC1_TRIG/COMP1_INP/LCD_COM2, 12 PA7/LCD_SEG0/TIM5_CH1, 13 VSSA/VREF-, 14 VSS1, 15 VDD1, 16 VDDA, 17 VREF+/VREF+_DAC, 22 VLCD, 37 VDD3, 38 VSS3, 39 PB0/ADC1_IN18/COMP1_INP/LCD_SEG10/TIM2_CH1, 40 PB1/ADC1_IN17/COMP1_INP/LCD_SEG11/TIM3_CH1, 41 PB2/ADC1_IN16/COMP1_INP/LCD_SEG12/TIM2_CH2, 42 PB3/ADC1_IN15/COMP1_INP/LCD_SEG13/TIM2_ETR, 43 PB4/ADC1_IN14/COMP1_INP/LCD_SEG14/~{SPI1_NSS}, 44 PB5/ADC1_IN13/COMP1_INP/LCD_SEG15/SPI1_SCK, 45 PB6/ADC1_IN12/COMP1_INP/LCD_SEG16/SPI1_MOSI, 46 PB7/ADC1_IN11/COMP1_INP/LCD_SEG17/SPI1_MISO, 47 VDD4, 48 VSS4, 65 PC0/I2C1_SDA, 66 PC1/I2C1_SCL, 67 VDD2, 68 VSS2, 69 PC2/ADC1_IN6/COMP1_INP/LCD_SEG22/SYS_VREFINT/USART1_RX, 70 PC3/ADC1_IN5/COMP1_INP/COMP2_INM/LCD_SEG23/USART1_TX, 71 PC4/ADC1_IN4/COMP1_INP/COMP2_INM/I2C1_SMB/LCD_SEG24/RCC_CCO/USART1_CK, 72 PC5/RCC_OSC32_IN/~{SPI1_NSS}/USART1_TX, 73 PC6/RCC_OSC32_OUT/SPI1_SCK/USART1_RX, 74 PC7/ADC1_IN3/COMP1_INP/COMP2_INM/LCD_SEG25
part B pins: 23 PE0/LCD_SEG1/TIM5_CH2, 24 PE1/LCD_SEG2/TIM1_CH2N, 25 PE2/LCD_SEG3/TIM1_CH3N, 26 PE3/LCD_SEG4, 27 PE4/DAC_TRIG1/LCD_SEG5, 28 PE5/ADC1_IN23/COMP1_INP/COMP2_INP/LCD_SEG6, 29 PD0/ADC1_IN22/ADC1_TRIG/COMP2_INP/LCD_SEG7/TIM3_CH2, 30 PD1/ADC1_IN21/COMP1_INP/COMP2_INP/LCD_COM3/TIM3_ETR, 31 PD2/ADC1_IN20/COMP1_INP/LCD_SEG8/TIM1_CH1, 32 PD3/ADC1_IN19/COMP1_INP/LCD_SEG9/TIM1_ETR, 49 PF0/ADC1_IN24/DAC_OUT1/SPI1_MISO/USART3_TX, 50 PF1/ADC1_IN25/DAC_OUT2/SPI1_MOSI/USART3_RX, 51 PF2/ADC1_IN26/SPI1_SCK/USART3_CK, 52 PF3/ADC1_IN27/~{SPI1_NSS}, 53 PF4/LCD_COM4, 54 PF5/LCD_COM5, 55 PF6/LCD_COM6, 56 PF7/LCD_COM7, 57 PD4/ADC1_IN10/COMP1_INP/LCD_SEG18/TIM1_CH2, 58 PD5/ADC1_IN9/COMP1_INP/LCD_SEG19/TIM1_CH3, 59 PD6/ADC1_IN8/COMP1_INP/LCD_SEG20/RTC_CALIB/SYS_VREFINT/~{TIM1_BKIN}, 60 PD7/ADC1_IN7/COMP1_INP/LCD_SEG21/RTC_ALARM/SYS_VREFINT/TIM1_CH1N, 75 PE6/LCD_SEG26/SYS_PVD_IN/~{TIM5_BKIN}, 76 PE7/LCD_SEG27/TIM5_ETR
part C pins: 1 PH0/LCD_SEG36, 2 PH1/LCD_SEG37, 3 PH2/LCD_SEG38, 4 PH3/LCD_SEG39, 18 PG0/LCD_SEG28/~{TIM2_BKIN}/USART3_RX, 19 PG1/LCD_SEG29/~{TIM3_BKIN}/USART3_TX, 20 PG2/LCD_SEG30/USART3_CK, 21 PG3/LCD_SEG31/TIM3_ETR, 33 PH4/USART2_RX, 34 PH5/USART2_TX, 35 PH6/TIM5_CH1/USART2_CK, 36 PH7/TIM5_CH2, 61 PG4/LCD_SEG32/~{SPI2_NSS}, 62 PG5/LCD_SEG33/SPI2_SCK, 63 PG6/LCD_SEG34/SPI2_MOSI, 64 PG7/LCD_SEG35/SPI2_MISO, 77 PI0/RTC_TAMP1/~{SPI2_NSS}/TIM3_CH1, 78 PI1/RTC_TAMP2/SPI2_SCK, 79 PI2/RTC_TAMP3/SPI2_MOSI, 80 PI3/SPI2_MISO/TIM3_CH2/TIM5_CH1


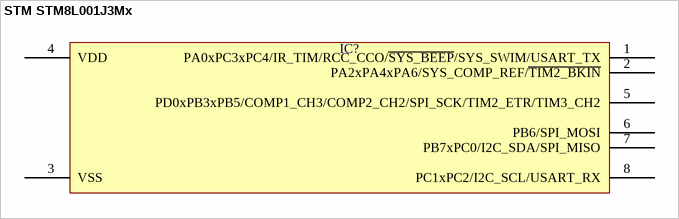
[diagram p631: symbol STM STM8L001J3Mx]

## STM STM8L001J3Mx
designator IC?  (value not drawn)
pins: 1 PA0xPC3xPC4/IR_TIM/RCC_CCO/~{SYS_BEEP}/SYS_SWIM/USART_TX, 2 PA2xPA4xPA6/SYS_COMP_REF/~{TIM2_BKIN}, 3 VSS, 4 VDD, 5 PD0xPB3xPB5/COMP1_CH3/COMP2_CH2/SPI_SCK/TIM2_ETR/TIM3_CH2, 6 PB6/SPI_MOSI, 7 PB7xPC0/I2C_SDA/SPI_MISO, 8 PC1xPC2/I2C_SCL/USART_RX


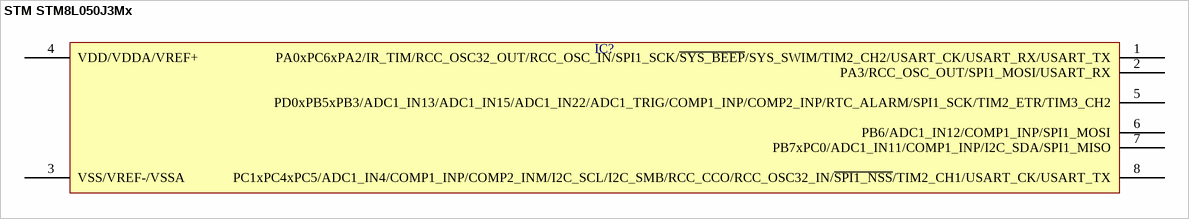
[diagram p632: symbol STM STM8L050J3Mx]

## STM STM8L050J3Mx
designator IC?  (value not drawn)
pins: 1 PA0xPC6xPA2/IR_TIM/RCC_OSC32_OUT/RCC_OSC_IN/SPI1_SCK/~{SYS_BEEP}/SYS_SWIM/TIM2_CH2/USART_CK/USART_RX/USART_TX, 2 PA3/RCC_OSC_OUT/SPI1_MOSI/USART_RX, 3 VSS/VREF-/VSSA, 4 VDD/VDDA/VREF+, 5 PD0xPB5xPB3/ADC1_IN13/ADC1_IN15/ADC1_IN22/ADC1_TRIG/COMP1_INP/COMP2_INP/RTC_ALARM/SPI1_SCK/TIM2_ETR/TIM3_CH2, 6 PB6/ADC1_IN12/COMP1_INP/SPI1_MOSI, 7 PB7xPC0/ADC1_IN11/COMP1_INP/I2C_SDA/SPI1_MISO, 8 PC1xPC4xPC5/ADC1_IN4/COMP1_INP/COMP2_INM/I2C_SCL/I2C_SMB/RCC_CCO/RCC_OSC32_IN/~{SPI1_NSS}/TIM2_CH1/USART_CK/USART_TX
